# Altium schematic symbol library ARM Cortex.SchLib: 48 symbols (part 1 of 2)
Pins are listed as number, name and electrical type; pins without a type are passive.

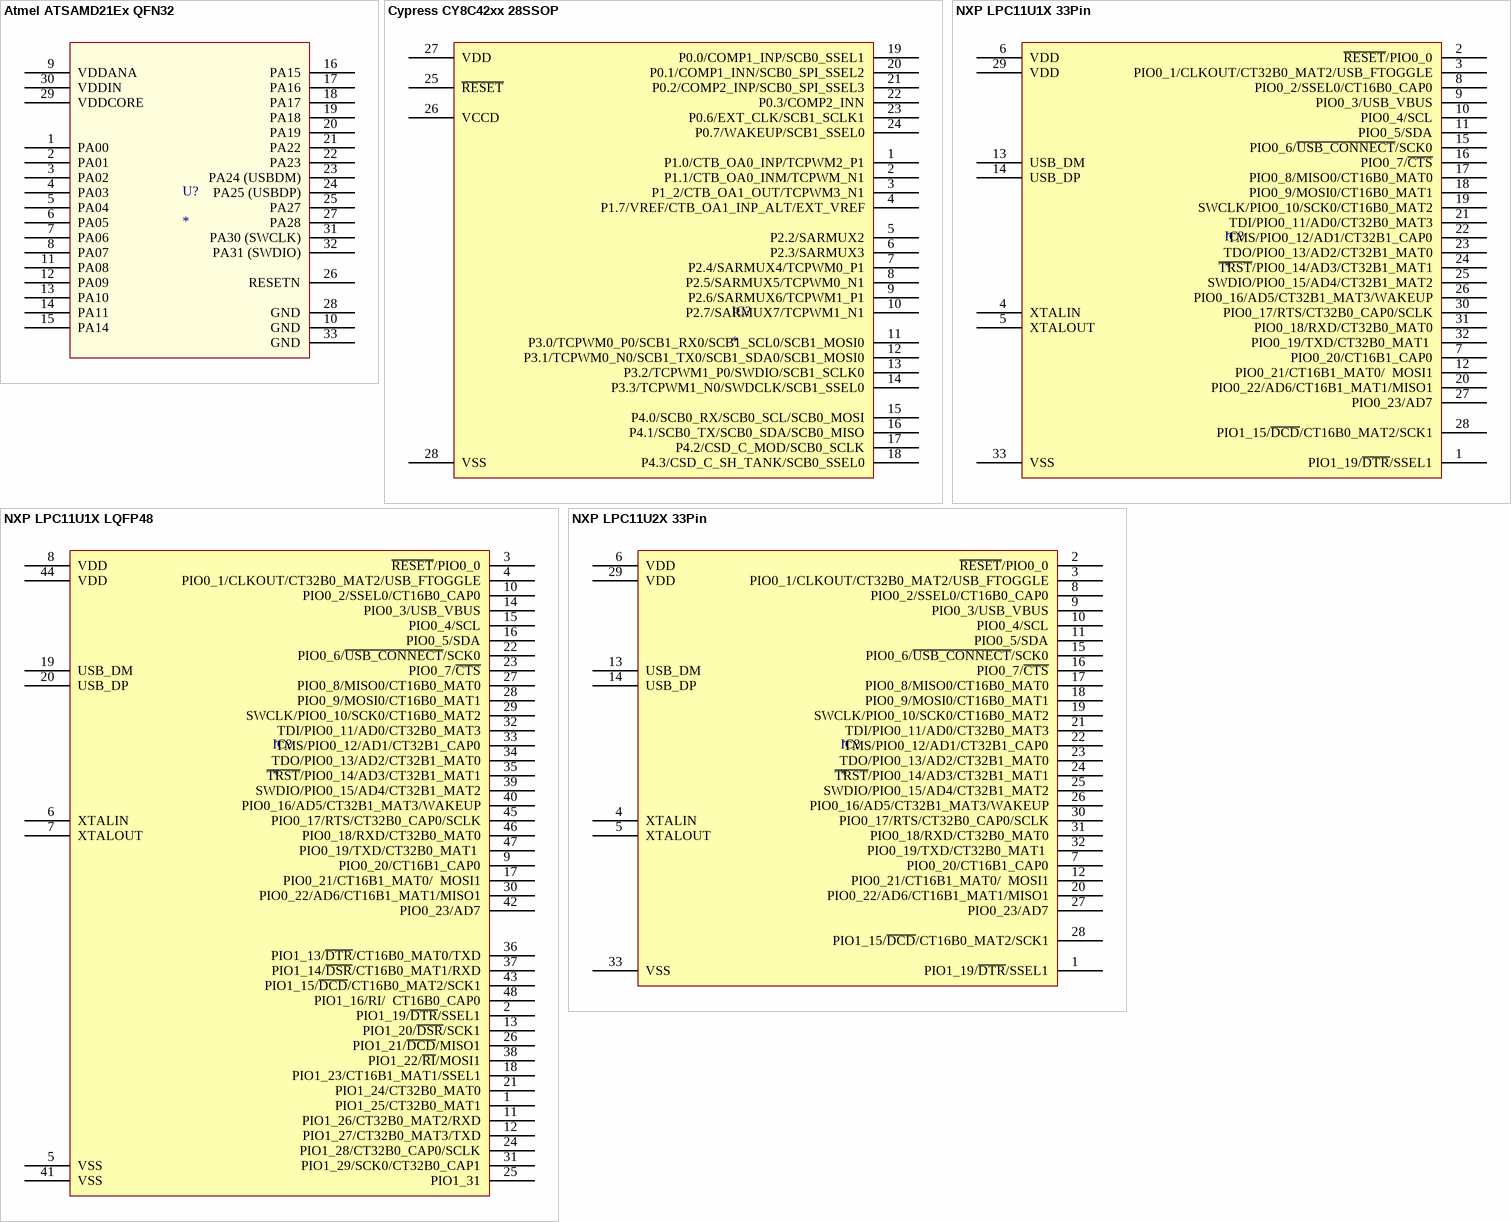
[diagram p0: symbols Atmel ATSAMD21Ex QFN32 to NXP LPC11U2X 33Pin]

## Atmel ATSAMD21Ex QFN32
designator U?
pins: 1 PA00, 2 PA01, 3 PA02, 4 PA03, 5 PA04, 6 PA05, 7 PA06, 8 PA07, 9 VDDANA, 10 GND, 11 PA08, 12 PA09, 13 PA10, 14 PA11, 15 PA14, 16 PA15, 17 PA16, 18 PA17, 19 PA18, 20 PA19, 21 PA22, 22 PA23, 23 PA24 (USBDM), 24 PA25 (USBDP), 25 PA27, 26 RESETN, 27 PA28, 28 GND, 29 VDDCORE, 30 VDDIN, 31 PA30 (SWCLK), 32 PA31 (SWDIO), 33 GND

## Cypress CY8C42xx 28SSOP
designator IC?
pins: 1 P1.0/CTB_OA0_INP/TCPWM2_P1, 2 P1.1/CTB_OA0_INM/TCPWM_N1, 3 P1_2/CTB_OA1_OUT/TCPWM3_N1, 4 P1.7/VREF/CTB_OA1_INP_ALT/EXT_VREF, 5 P2.2/SARMUX2, 6 P2.3/SARMUX3, 7 P2.4/SARMUX4/TCPWM0_P1, 8 P2.5/SARMUX5/TCPWM0_N1, 9 P2.6/SARMUX6/TCPWM1_P1, 10 P2.7/SARMUX7/TCPWM1_N1, 11 P3.0/TCPWM0_P0/SCB1_RX0/SCB1_SCL0/SCB1_MOSI0, 12 P3.1/TCPWM0_N0/SCB1_TX0/SCB1_SDA0/SCB1_MOSI0, 13 P3.2/TCPWM1_P0/SWDIO/SCB1_SCLK0, 14 P3.3/TCPWM1_N0/SWDCLK/SCB1_SSEL0, 15 P4.0/SCB0_RX/SCB0_SCL/SCB0_MOSI, 16 P4.1/SCB0_TX/SCB0_SDA/SCB0_MISO, 17 P4.2/CSD_C_MOD/SCB0_SCLK, 18 P4.3/CSD_C_SH_TANK/SCB0_SSEL0, 19 P0.0/COMP1_INP/SCB0_SSEL1, 20 P0.1/COMP1_INN/SCB0_SPI_SSEL2, 21 P0.2/COMP2_INP/SCB0_SPI_SSEL3, 22 P0.3/COMP2_INN, 23 P0.6/EXT_CLK/SCB1_SCLK1, 24 P0.7/WAKEUP/SCB1_SSEL0, 25 ~{RESET}, 26 VCCD, 27 VDD, 28 VSS

## NXP LPC11U1X 33Pin
designator IC?
pins: 1 PIO1_19/~{DTR}/SSEL1, 2 ~{RESET}/PIO0_0, 3 PIO0_1/CLKOUT/CT32B0_MAT2/USB_FTOGGLE, 4 XTALIN, 5 XTALOUT, 6 VDD, 7 PIO0_20/CT16B1_CAP0, 8 PIO0_2/SSEL0/CT16B0_CAP0, 9 PIO0_3/USB_VBUS, 10 PIO0_4/SCL, 11 PIO0_5/SDA, 12 PIO0_21/CT16B1_MAT0/  MOSI1, 13 USB_DM, 14 USB_DP, 15 PIO0_6/~{USB_CONNECT}/SCK0, 16 PIO0_7/~{CTS}, 17 PIO0_8/MISO0/CT16B0_MAT0, 18 PIO0_9/MOSI0/CT16B0_MAT1, 19 SWCLK/PIO0_10/SCK0/CT16B0_MAT2, 20 PIO0_22/AD6/CT16B1_MAT1/MISO1, 21 TDI/PIO0_11/AD0/CT32B0_MAT3, 22 TMS/PIO0_12/AD1/CT32B1_CAP0, 23 TDO/PIO0_13/AD2/CT32B1_MAT0, 24 ~{TRST}/PIO0_14/AD3/CT32B1_MAT1, 25 SWDIO/PIO0_15/AD4/CT32B1_MAT2, 26 PIO0_16/AD5/CT32B1_MAT3/WAKEUP, 27 PIO0_23/AD7, 28 PIO1_15/~{DCD}/CT16B0_MAT2/SCK1, 29 VDD, 30 PIO0_17/RTS/CT32B0_CAP0/SCLK, 31 PIO0_18/RXD/CT32B0_MAT0, 32 PIO0_19/TXD/CT32B0_MAT1 , 33 VSS

## NXP LPC11U1X LQFP48
designator IC?
pins: 1 PIO1_25/CT32B0_MAT1, 2 PIO1_19/~{DTR}/SSEL1, 3 ~{RESET}/PIO0_0, 4 PIO0_1/CLKOUT/CT32B0_MAT2/USB_FTOGGLE, 5 VSS, 6 XTALIN, 7 XTALOUT, 8 VDD, 9 PIO0_20/CT16B1_CAP0, 10 PIO0_2/SSEL0/CT16B0_CAP0, 11 PIO1_26/CT32B0_MAT2/RXD, 12 PIO1_27/CT32B0_MAT3/TXD, 13 PIO1_20/~{DSR}/SCK1, 14 PIO0_3/USB_VBUS, 15 PIO0_4/SCL, 16 PIO0_5/SDA, 17 PIO0_21/CT16B1_MAT0/  MOSI1, 18 PIO1_23/CT16B1_MAT1/SSEL1, 19 USB_DM, 20 USB_DP, 21 PIO1_24/CT32B0_MAT0, 22 PIO0_6/~{USB_CONNECT}/SCK0, 23 PIO0_7/~{CTS}, 24 PIO1_28/CT32B0_CAP0/SCLK, 25 PIO1_31, 26 PIO1_21/~{DCD}/MISO1, 27 PIO0_8/MISO0/CT16B0_MAT0, 28 PIO0_9/MOSI0/CT16B0_MAT1, 29 SWCLK/PIO0_10/SCK0/CT16B0_MAT2, 30 PIO0_22/AD6/CT16B1_MAT1/MISO1, 31 PIO1_29/SCK0/CT32B0_CAP1, 32 TDI/PIO0_11/AD0/CT32B0_MAT3, 33 TMS/PIO0_12/AD1/CT32B1_CAP0, 34 TDO/PIO0_13/AD2/CT32B1_MAT0, 35 ~{TRST}/PIO0_14/AD3/CT32B1_MAT1, 36 PIO1_13/~{DTR}/CT16B0_MAT0/TXD, 37 PIO1_14/~{DSR}/CT16B0_MAT1/RXD, 38 PIO1_22/~{RI}/MOSI1, 39 SWDIO/PIO0_15/AD4/CT32B1_MAT2, 40 PIO0_16/AD5/CT32B1_MAT3/WAKEUP, 41 VSS, 42 PIO0_23/AD7, 43 PIO1_15/~{DCD}/CT16B0_MAT2/SCK1, 44 VDD, 45 PIO0_17/RTS/CT32B0_CAP0/SCLK, 46 PIO0_18/RXD/CT32B0_MAT0, 47 PIO0_19/TXD/CT32B0_MAT1 , 48 PIO1_16/RI/  CT16B0_CAP0

## NXP LPC11U2X 33Pin
designator IC?
pins: 1 PIO1_19/~{DTR}/SSEL1, 2 ~{RESET}/PIO0_0, 3 PIO0_1/CLKOUT/CT32B0_MAT2/USB_FTOGGLE, 4 XTALIN, 5 XTALOUT, 6 VDD, 7 PIO0_20/CT16B1_CAP0, 8 PIO0_2/SSEL0/CT16B0_CAP0, 9 PIO0_3/USB_VBUS, 10 PIO0_4/SCL, 11 PIO0_5/SDA, 12 PIO0_21/CT16B1_MAT0/  MOSI1, 13 USB_DM, 14 USB_DP, 15 PIO0_6/~{USB_CONNECT}/SCK0, 16 PIO0_7/~{CTS}, 17 PIO0_8/MISO0/CT16B0_MAT0, 18 PIO0_9/MOSI0/CT16B0_MAT1, 19 SWCLK/PIO0_10/SCK0/CT16B0_MAT2, 20 PIO0_22/AD6/CT16B1_MAT1/MISO1, 21 TDI/PIO0_11/AD0/CT32B0_MAT3, 22 TMS/PIO0_12/AD1/CT32B1_CAP0, 23 TDO/PIO0_13/AD2/CT32B1_MAT0, 24 ~{TRST}/PIO0_14/AD3/CT32B1_MAT1, 25 SWDIO/PIO0_15/AD4/CT32B1_MAT2, 26 PIO0_16/AD5/CT32B1_MAT3/WAKEUP, 27 PIO0_23/AD7, 28 PIO1_15/~{DCD}/CT16B0_MAT2/SCK1, 29 VDD, 30 PIO0_17/RTS/CT32B0_CAP0/SCLK, 31 PIO0_18/RXD/CT32B0_MAT0, 32 PIO0_19/TXD/CT32B0_MAT1 , 33 VSS

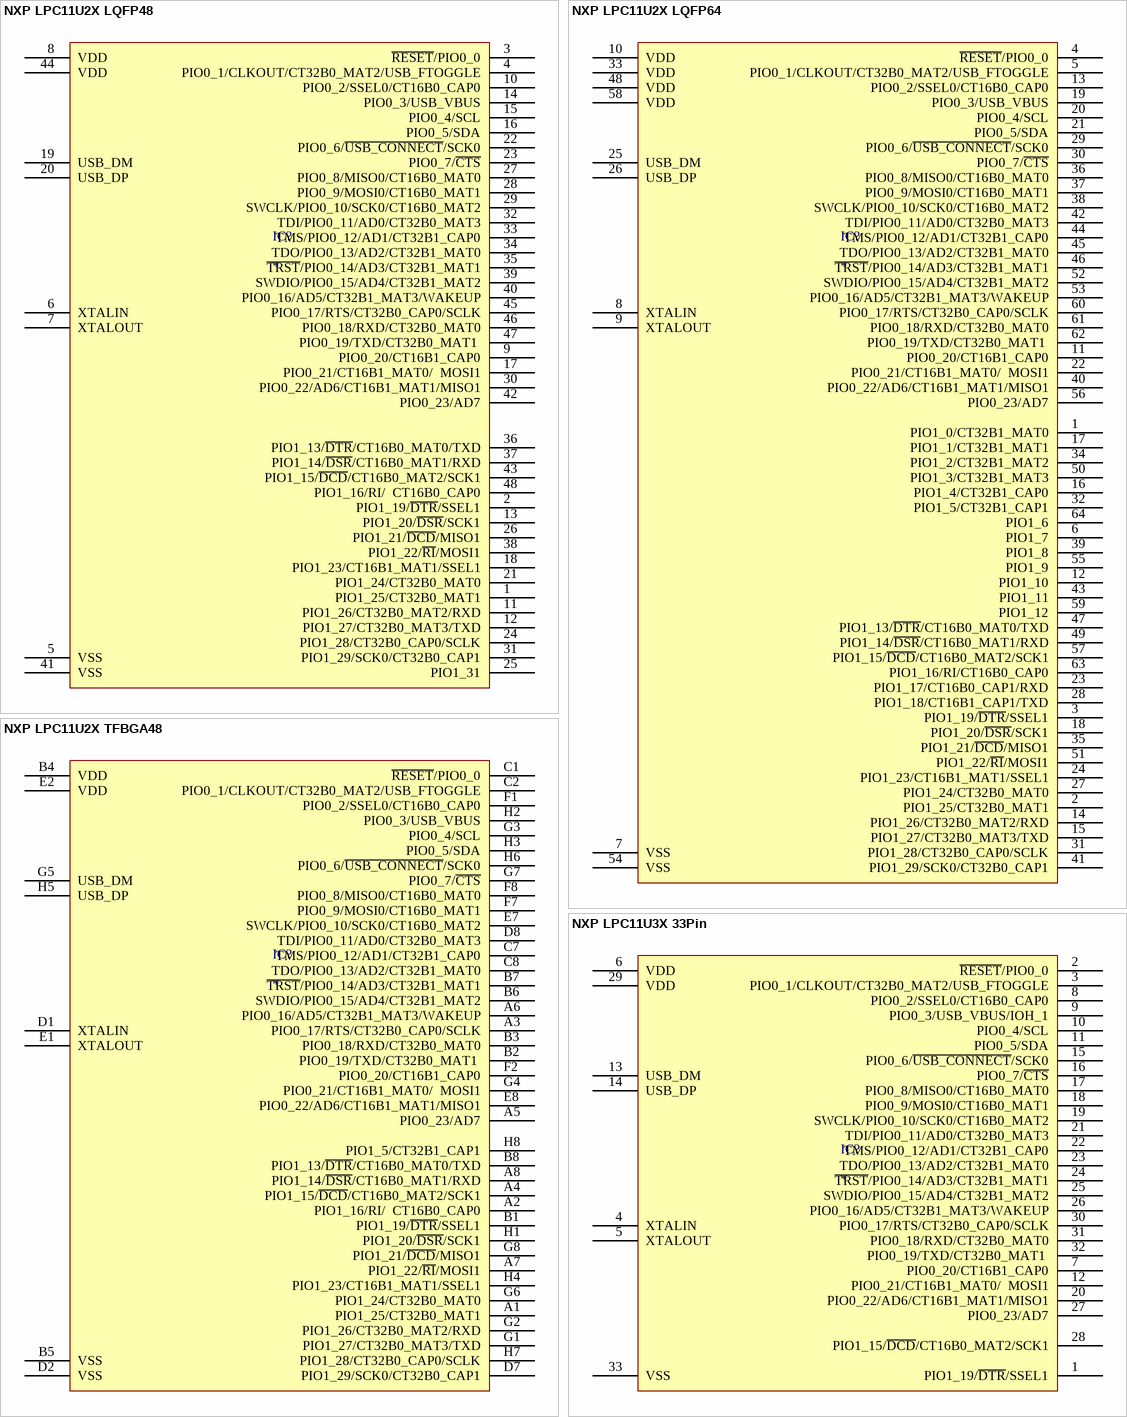
[diagram p1: symbols NXP LPC11U2X LQFP48 to NXP LPC11U3X 33Pin]

## NXP LPC11U2X LQFP48
designator IC?
pins: 1 PIO1_25/CT32B0_MAT1, 2 PIO1_19/~{DTR}/SSEL1, 3 ~{RESET}/PIO0_0, 4 PIO0_1/CLKOUT/CT32B0_MAT2/USB_FTOGGLE, 5 VSS, 6 XTALIN, 7 XTALOUT, 8 VDD, 9 PIO0_20/CT16B1_CAP0, 10 PIO0_2/SSEL0/CT16B0_CAP0, 11 PIO1_26/CT32B0_MAT2/RXD, 12 PIO1_27/CT32B0_MAT3/TXD, 13 PIO1_20/~{DSR}/SCK1, 14 PIO0_3/USB_VBUS, 15 PIO0_4/SCL, 16 PIO0_5/SDA, 17 PIO0_21/CT16B1_MAT0/  MOSI1, 18 PIO1_23/CT16B1_MAT1/SSEL1, 19 USB_DM, 20 USB_DP, 21 PIO1_24/CT32B0_MAT0, 22 PIO0_6/~{USB_CONNECT}/SCK0, 23 PIO0_7/~{CTS}, 24 PIO1_28/CT32B0_CAP0/SCLK, 25 PIO1_31, 26 PIO1_21/~{DCD}/MISO1, 27 PIO0_8/MISO0/CT16B0_MAT0, 28 PIO0_9/MOSI0/CT16B0_MAT1, 29 SWCLK/PIO0_10/SCK0/CT16B0_MAT2, 30 PIO0_22/AD6/CT16B1_MAT1/MISO1, 31 PIO1_29/SCK0/CT32B0_CAP1, 32 TDI/PIO0_11/AD0/CT32B0_MAT3, 33 TMS/PIO0_12/AD1/CT32B1_CAP0, 34 TDO/PIO0_13/AD2/CT32B1_MAT0, 35 ~{TRST}/PIO0_14/AD3/CT32B1_MAT1, 36 PIO1_13/~{DTR}/CT16B0_MAT0/TXD, 37 PIO1_14/~{DSR}/CT16B0_MAT1/RXD, 38 PIO1_22/~{RI}/MOSI1, 39 SWDIO/PIO0_15/AD4/CT32B1_MAT2, 40 PIO0_16/AD5/CT32B1_MAT3/WAKEUP, 41 VSS, 42 PIO0_23/AD7, 43 PIO1_15/~{DCD}/CT16B0_MAT2/SCK1, 44 VDD, 45 PIO0_17/RTS/CT32B0_CAP0/SCLK, 46 PIO0_18/RXD/CT32B0_MAT0, 47 PIO0_19/TXD/CT32B0_MAT1 , 48 PIO1_16/RI/  CT16B0_CAP0

## NXP LPC11U2X LQFP64
designator IC?
pins: 1 PIO1_0/CT32B1_MAT0, 2 PIO1_25/CT32B0_MAT1, 3 PIO1_19/~{DTR}/SSEL1, 4 ~{RESET}/PIO0_0, 5 PIO0_1/CLKOUT/CT32B0_MAT2/USB_FTOGGLE, 6 PIO1_7, 7 VSS, 8 XTALIN, 9 XTALOUT, 10 VDD, 11 PIO0_20/CT16B1_CAP0, 12 PIO1_10, 13 PIO0_2/SSEL0/CT16B0_CAP0, 14 PIO1_26/CT32B0_MAT2/RXD, 15 PIO1_27/CT32B0_MAT3/TXD, 16 PIO1_4/CT32B1_CAP0, 17 PIO1_1/CT32B1_MAT1, 18 PIO1_20/~{DSR}/SCK1, 19 PIO0_3/USB_VBUS, 20 PIO0_4/SCL, 21 PIO0_5/SDA, 22 PIO0_21/CT16B1_MAT0/  MOSI1, 23 PIO1_17/CT16B0_CAP1/RXD, 24 PIO1_23/CT16B1_MAT1/SSEL1, 25 USB_DM, 26 USB_DP, 27 PIO1_24/CT32B0_MAT0, 28 PIO1_18/CT16B1_CAP1/TXD, 29 PIO0_6/~{USB_CONNECT}/SCK0, 30 PIO0_7/~{CTS}, 31 PIO1_28/CT32B0_CAP0/SCLK, 32 PIO1_5/CT32B1_CAP1, 33 VDD, 34 PIO1_2/CT32B1_MAT2, 35 PIO1_21/~{DCD}/MISO1, 36 PIO0_8/MISO0/CT16B0_MAT0, 37 PIO0_9/MOSI0/CT16B0_MAT1, 38 SWCLK/PIO0_10/SCK0/CT16B0_MAT2, 39 PIO1_8, 40 PIO0_22/AD6/CT16B1_MAT1/MISO1, 41 PIO1_29/SCK0/CT32B0_CAP1, 42 TDI/PIO0_11/AD0/CT32B0_MAT3, 43 PIO1_11, 44 TMS/PIO0_12/AD1/CT32B1_CAP0, 45 TDO/PIO0_13/AD2/CT32B1_MAT0, 46 ~{TRST}/PIO0_14/AD3/CT32B1_MAT1, 47 PIO1_13/~{DTR}/CT16B0_MAT0/TXD, 48 VDD, 49 PIO1_14/~{DSR}/CT16B0_MAT1/RXD, 50 PIO1_3/CT32B1_MAT3, 51 PIO1_22/~{RI}/MOSI1, 52 SWDIO/PIO0_15/AD4/CT32B1_MAT2, 53 PIO0_16/AD5/CT32B1_MAT3/WAKEUP, 54 VSS, 55 PIO1_9, 56 PIO0_23/AD7, 57 PIO1_15/~{DCD}/CT16B0_MAT2/SCK1, 58 VDD, 59 PIO1_12, 60 PIO0_17/RTS/CT32B0_CAP0/SCLK, 61 PIO0_18/RXD/CT32B0_MAT0, 62 PIO0_19/TXD/CT32B0_MAT1 , 63 PIO1_16/RI/CT16B0_CAP0, 64 PIO1_6

## NXP LPC11U2X TFBGA48
designator IC?
pins: A1 PIO1_25/CT32B0_MAT1, A2 PIO1_16/RI/  CT16B0_CAP0, A3 PIO0_17/RTS/CT32B0_CAP0/SCLK, A4 PIO1_15/~{DCD}/CT16B0_MAT2/SCK1, A5 PIO0_23/AD7, A6 PIO0_16/AD5/CT32B1_MAT3/WAKEUP, A7 PIO1_22/~{RI}/MOSI1, A8 PIO1_14/~{DSR}/CT16B0_MAT1/RXD, B1 PIO1_19/~{DTR}/SSEL1, B2 PIO0_19/TXD/CT32B0_MAT1 , B3 PIO0_18/RXD/CT32B0_MAT0, B4 VDD, B5 VSS, B6 SWDIO/PIO0_15/AD4/CT32B1_MAT2, B7 ~{TRST}/PIO0_14/AD3/CT32B1_MAT1, B8 PIO1_13/~{DTR}/CT16B0_MAT0/TXD, C1 ~{RESET}/PIO0_0, C2 PIO0_1/CLKOUT/CT32B0_MAT2/USB_FTOGGLE, C7 TMS/PIO0_12/AD1/CT32B1_CAP0, C8 TDO/PIO0_13/AD2/CT32B1_MAT0, D1 XTALIN, D2 VSS, D7 PIO1_29/SCK0/CT32B0_CAP1, D8 TDI/PIO0_11/AD0/CT32B0_MAT3, E1 XTALOUT, E2 VDD, E7 SWCLK/PIO0_10/SCK0/CT16B0_MAT2, E8 PIO0_22/AD6/CT16B1_MAT1/MISO1, F1 PIO0_2/SSEL0/CT16B0_CAP0, F2 PIO0_20/CT16B1_CAP0, F7 PIO0_9/MOSI0/CT16B0_MAT1, F8 PIO0_8/MISO0/CT16B0_MAT0, G1 PIO1_27/CT32B0_MAT3/TXD, G2 PIO1_26/CT32B0_MAT2/RXD, G3 PIO0_4/SCL, G4 PIO0_21/CT16B1_MAT0/  MOSI1, G5 USB_DM, G6 PIO1_24/CT32B0_MAT0, G7 PIO0_7/~{CTS}, G8 PIO1_21/~{DCD}/MISO1, H1 PIO1_20/~{DSR}/SCK1, H2 PIO0_3/USB_VBUS, H3 PIO0_5/SDA, H4 PIO1_23/CT16B1_MAT1/SSEL1, H5 USB_DP, H6 PIO0_6/~{USB_CONNECT}/SCK0, H7 PIO1_28/CT32B0_CAP0/SCLK, H8 PIO1_5/CT32B1_CAP1

## NXP LPC11U3X 33Pin
designator IC?
pins: 1 PIO1_19/~{DTR}/SSEL1, 2 ~{RESET}/PIO0_0, 3 PIO0_1/CLKOUT/CT32B0_MAT2/USB_FTOGGLE, 4 XTALIN, 5 XTALOUT, 6 VDD, 7 PIO0_20/CT16B1_CAP0, 8 PIO0_2/SSEL0/CT16B0_CAP0, 9 PIO0_3/USB_VBUS/IOH_1, 10 PIO0_4/SCL, 11 PIO0_5/SDA, 12 PIO0_21/CT16B1_MAT0/  MOSI1, 13 USB_DM, 14 USB_DP, 15 PIO0_6/~{USB_CONNECT}/SCK0, 16 PIO0_7/~{CTS}, 17 PIO0_8/MISO0/CT16B0_MAT0, 18 PIO0_9/MOSI0/CT16B0_MAT1, 19 SWCLK/PIO0_10/SCK0/CT16B0_MAT2, 20 PIO0_22/AD6/CT16B1_MAT1/MISO1, 21 TDI/PIO0_11/AD0/CT32B0_MAT3, 22 TMS/PIO0_12/AD1/CT32B1_CAP0, 23 TDO/PIO0_13/AD2/CT32B1_MAT0, 24 ~{TRST}/PIO0_14/AD3/CT32B1_MAT1, 25 SWDIO/PIO0_15/AD4/CT32B1_MAT2, 26 PIO0_16/AD5/CT32B1_MAT3/WAKEUP, 27 PIO0_23/AD7, 28 PIO1_15/~{DCD}/CT16B0_MAT2/SCK1, 29 VDD, 30 PIO0_17/RTS/CT32B0_CAP0/SCLK, 31 PIO0_18/RXD/CT32B0_MAT0, 32 PIO0_19/TXD/CT32B0_MAT1 , 33 VSS

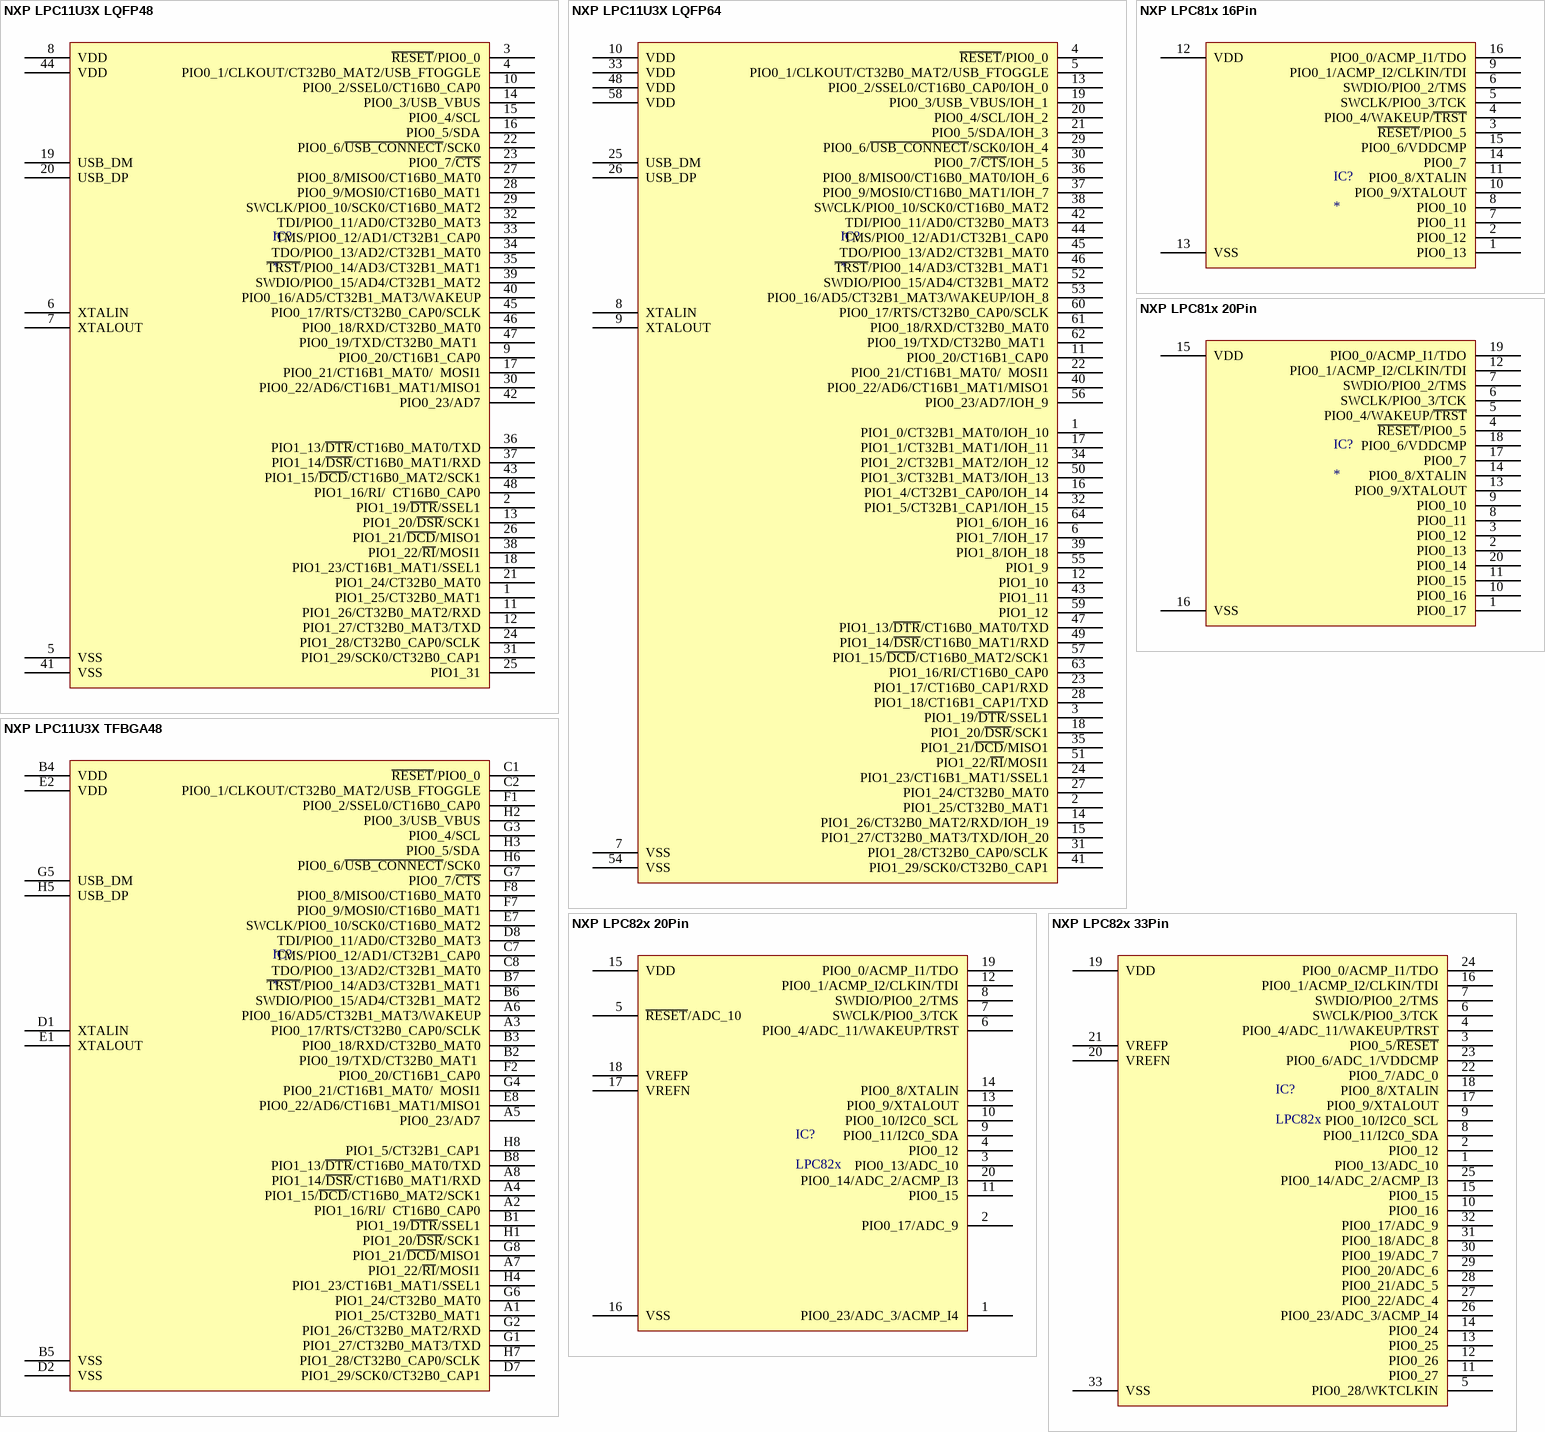
[diagram p2: symbols NXP LPC11U3X LQFP48 to NXP LPC82x 33Pin]

## NXP LPC11U3X LQFP48
designator IC?
pins: 1 PIO1_25/CT32B0_MAT1, 2 PIO1_19/~{DTR}/SSEL1, 3 ~{RESET}/PIO0_0, 4 PIO0_1/CLKOUT/CT32B0_MAT2/USB_FTOGGLE, 5 VSS, 6 XTALIN, 7 XTALOUT, 8 VDD, 9 PIO0_20/CT16B1_CAP0, 10 PIO0_2/SSEL0/CT16B0_CAP0, 11 PIO1_26/CT32B0_MAT2/RXD, 12 PIO1_27/CT32B0_MAT3/TXD, 13 PIO1_20/~{DSR}/SCK1, 14 PIO0_3/USB_VBUS, 15 PIO0_4/SCL, 16 PIO0_5/SDA, 17 PIO0_21/CT16B1_MAT0/  MOSI1, 18 PIO1_23/CT16B1_MAT1/SSEL1, 19 USB_DM, 20 USB_DP, 21 PIO1_24/CT32B0_MAT0, 22 PIO0_6/~{USB_CONNECT}/SCK0, 23 PIO0_7/~{CTS}, 24 PIO1_28/CT32B0_CAP0/SCLK, 25 PIO1_31, 26 PIO1_21/~{DCD}/MISO1, 27 PIO0_8/MISO0/CT16B0_MAT0, 28 PIO0_9/MOSI0/CT16B0_MAT1, 29 SWCLK/PIO0_10/SCK0/CT16B0_MAT2, 30 PIO0_22/AD6/CT16B1_MAT1/MISO1, 31 PIO1_29/SCK0/CT32B0_CAP1, 32 TDI/PIO0_11/AD0/CT32B0_MAT3, 33 TMS/PIO0_12/AD1/CT32B1_CAP0, 34 TDO/PIO0_13/AD2/CT32B1_MAT0, 35 ~{TRST}/PIO0_14/AD3/CT32B1_MAT1, 36 PIO1_13/~{DTR}/CT16B0_MAT0/TXD, 37 PIO1_14/~{DSR}/CT16B0_MAT1/RXD, 38 PIO1_22/~{RI}/MOSI1, 39 SWDIO/PIO0_15/AD4/CT32B1_MAT2, 40 PIO0_16/AD5/CT32B1_MAT3/WAKEUP, 41 VSS, 42 PIO0_23/AD7, 43 PIO1_15/~{DCD}/CT16B0_MAT2/SCK1, 44 VDD, 45 PIO0_17/RTS/CT32B0_CAP0/SCLK, 46 PIO0_18/RXD/CT32B0_MAT0, 47 PIO0_19/TXD/CT32B0_MAT1 , 48 PIO1_16/RI/  CT16B0_CAP0

## NXP LPC11U3X LQFP64
designator IC?
pins: 1 PIO1_0/CT32B1_MAT0/IOH_10, 2 PIO1_25/CT32B0_MAT1, 3 PIO1_19/~{DTR}/SSEL1, 4 ~{RESET}/PIO0_0, 5 PIO0_1/CLKOUT/CT32B0_MAT2/USB_FTOGGLE, 6 PIO1_7/IOH_17, 7 VSS, 8 XTALIN, 9 XTALOUT, 10 VDD, 11 PIO0_20/CT16B1_CAP0, 12 PIO1_10, 13 PIO0_2/SSEL0/CT16B0_CAP0/IOH_0, 14 PIO1_26/CT32B0_MAT2/RXD/IOH_19, 15 PIO1_27/CT32B0_MAT3/TXD/IOH_20, 16 PIO1_4/CT32B1_CAP0/IOH_14, 17 PIO1_1/CT32B1_MAT1/IOH_11, 18 PIO1_20/~{DSR}/SCK1, 19 PIO0_3/USB_VBUS/IOH_1, 20 PIO0_4/SCL/IOH_2, 21 PIO0_5/SDA/IOH_3, 22 PIO0_21/CT16B1_MAT0/  MOSI1, 23 PIO1_17/CT16B0_CAP1/RXD, 24 PIO1_23/CT16B1_MAT1/SSEL1, 25 USB_DM, 26 USB_DP, 27 PIO1_24/CT32B0_MAT0, 28 PIO1_18/CT16B1_CAP1/TXD, 29 PIO0_6/~{USB_CONNECT}/SCK0/IOH_4, 30 PIO0_7/~{CTS}/IOH_5, 31 PIO1_28/CT32B0_CAP0/SCLK, 32 PIO1_5/CT32B1_CAP1/IOH_15, 33 VDD, 34 PIO1_2/CT32B1_MAT2/IOH_12, 35 PIO1_21/~{DCD}/MISO1, 36 PIO0_8/MISO0/CT16B0_MAT0/IOH_6, 37 PIO0_9/MOSI0/CT16B0_MAT1/IOH_7, 38 SWCLK/PIO0_10/SCK0/CT16B0_MAT2, 39 PIO1_8/IOH_18, 40 PIO0_22/AD6/CT16B1_MAT1/MISO1, 41 PIO1_29/SCK0/CT32B0_CAP1, 42 TDI/PIO0_11/AD0/CT32B0_MAT3, 43 PIO1_11, 44 TMS/PIO0_12/AD1/CT32B1_CAP0, 45 TDO/PIO0_13/AD2/CT32B1_MAT0, 46 ~{TRST}/PIO0_14/AD3/CT32B1_MAT1, 47 PIO1_13/~{DTR}/CT16B0_MAT0/TXD, 48 VDD, 49 PIO1_14/~{DSR}/CT16B0_MAT1/RXD, 50 PIO1_3/CT32B1_MAT3/IOH_13, 51 PIO1_22/~{RI}/MOSI1, 52 SWDIO/PIO0_15/AD4/CT32B1_MAT2, 53 PIO0_16/AD5/CT32B1_MAT3/WAKEUP/IOH_8, 54 VSS, 55 PIO1_9, 56 PIO0_23/AD7/IOH_9, 57 PIO1_15/~{DCD}/CT16B0_MAT2/SCK1, 58 VDD, 59 PIO1_12, 60 PIO0_17/RTS/CT32B0_CAP0/SCLK, 61 PIO0_18/RXD/CT32B0_MAT0, 62 PIO0_19/TXD/CT32B0_MAT1 , 63 PIO1_16/RI/CT16B0_CAP0, 64 PIO1_6/IOH_16

## NXP LPC11U3X TFBGA48
designator IC?
pins: A1 PIO1_25/CT32B0_MAT1, A2 PIO1_16/RI/  CT16B0_CAP0, A3 PIO0_17/RTS/CT32B0_CAP0/SCLK, A4 PIO1_15/~{DCD}/CT16B0_MAT2/SCK1, A5 PIO0_23/AD7, A6 PIO0_16/AD5/CT32B1_MAT3/WAKEUP, A7 PIO1_22/~{RI}/MOSI1, A8 PIO1_14/~{DSR}/CT16B0_MAT1/RXD, B1 PIO1_19/~{DTR}/SSEL1, B2 PIO0_19/TXD/CT32B0_MAT1 , B3 PIO0_18/RXD/CT32B0_MAT0, B4 VDD, B5 VSS, B6 SWDIO/PIO0_15/AD4/CT32B1_MAT2, B7 ~{TRST}/PIO0_14/AD3/CT32B1_MAT1, B8 PIO1_13/~{DTR}/CT16B0_MAT0/TXD, C1 ~{RESET}/PIO0_0, C2 PIO0_1/CLKOUT/CT32B0_MAT2/USB_FTOGGLE, C7 TMS/PIO0_12/AD1/CT32B1_CAP0, C8 TDO/PIO0_13/AD2/CT32B1_MAT0, D1 XTALIN, D2 VSS, D7 PIO1_29/SCK0/CT32B0_CAP1, D8 TDI/PIO0_11/AD0/CT32B0_MAT3, E1 XTALOUT, E2 VDD, E7 SWCLK/PIO0_10/SCK0/CT16B0_MAT2, E8 PIO0_22/AD6/CT16B1_MAT1/MISO1, F1 PIO0_2/SSEL0/CT16B0_CAP0, F2 PIO0_20/CT16B1_CAP0, F7 PIO0_9/MOSI0/CT16B0_MAT1, F8 PIO0_8/MISO0/CT16B0_MAT0, G1 PIO1_27/CT32B0_MAT3/TXD, G2 PIO1_26/CT32B0_MAT2/RXD, G3 PIO0_4/SCL, G4 PIO0_21/CT16B1_MAT0/  MOSI1, G5 USB_DM, G6 PIO1_24/CT32B0_MAT0, G7 PIO0_7/~{CTS}, G8 PIO1_21/~{DCD}/MISO1, H1 PIO1_20/~{DSR}/SCK1, H2 PIO0_3/USB_VBUS, H3 PIO0_5/SDA, H4 PIO1_23/CT16B1_MAT1/SSEL1, H5 USB_DP, H6 PIO0_6/~{USB_CONNECT}/SCK0, H7 PIO1_28/CT32B0_CAP0/SCLK, H8 PIO1_5/CT32B1_CAP1

## NXP LPC81x 16Pin
designator IC?
pins: 1 PIO0_13, 2 PIO0_12, 3 ~{RESET}/PIO0_5, 4 PIO0_4/WAKEUP/~{TRST}, 5 SWCLK/PIO0_3/TCK, 6 SWDIO/PIO0_2/TMS, 7 PIO0_11, 8 PIO0_10, 9 PIO0_1/ACMP_I2/CLKIN/TDI, 10 PIO0_9/XTALOUT, 11 PIO0_8/XTALIN, 12 VDD, 13 VSS, 14 PIO0_7, 15 PIO0_6/VDDCMP, 16 PIO0_0/ACMP_I1/TDO

## NXP LPC81x 20Pin
designator IC?
pins: 1 PIO0_17, 2 PIO0_13, 3 PIO0_12, 4 ~{RESET}/PIO0_5, 5 PIO0_4/WAKEUP/~{TRST}, 6 SWCLK/PIO0_3/TCK, 7 SWDIO/PIO0_2/TMS, 8 PIO0_11, 9 PIO0_10, 10 PIO0_16, 11 PIO0_15, 12 PIO0_1/ACMP_I2/CLKIN/TDI, 13 PIO0_9/XTALOUT, 14 PIO0_8/XTALIN, 15 VDD, 16 VSS, 17 PIO0_7, 18 PIO0_6/VDDCMP, 19 PIO0_0/ACMP_I1/TDO, 20 PIO0_14

## NXP LPC82x 20Pin
designator IC?, comment LPC82x
32-bit ARM Cortex-M0+ microcontroller
pins: 1 PIO0_23/ADC_3/ACMP_I4, 2 PIO0_17/ADC_9, 3 PIO0_13/ADC_10, 4 PIO0_12, 5 ~{RESET}/ADC_10, 6 PIO0_4/ADC_11/WAKEUP/TRST, 7 SWCLK/PIO0_3/TCK, 8 SWDIO/PIO0_2/TMS, 9 PIO0_11/I2C0_SDA, 10 PIO0_10/I2C0_SCL, 11 PIO0_15, 12 PIO0_1/ACMP_I2/CLKIN/TDI, 13 PIO0_9/XTALOUT, 14 PIO0_8/XTALIN, 15 VDD, 16 VSS, 17 VREFN, 18 VREFP, 19 PIO0_0/ACMP_I1/TDO, 20 PIO0_14/ADC_2/ACMP_I3

## NXP LPC82x 33Pin
designator IC?, comment LPC82x
32-bit ARM Cortex-M0+ microcontroller
pins: 1 PIO0_13/ADC_10, 2 PIO0_12, 3 PIO0_5/~{RESET}, 4 PIO0_4/ADC_11/WAKEUP/TRST, 5 PIO0_28/WKTCLKIN, 6 SWCLK/PIO0_3/TCK, 7 SWDIO/PIO0_2/TMS, 8 PIO0_11/I2C0_SDA, 9 PIO0_10/I2C0_SCL, 10 PIO0_16, 11 PIO0_27, 12 PIO0_26, 13 PIO0_25, 14 PIO0_24, 15 PIO0_15, 16 PIO0_1/ACMP_I2/CLKIN/TDI, 17 PIO0_9/XTALOUT, 18 PIO0_8/XTALIN, 19 VDD, 20 VREFN, 21 VREFP, 22 PIO0_7/ADC_0, 23 PIO0_6/ADC_1/VDDCMP, 24 PIO0_0/ACMP_I1/TDO, 25 PIO0_14/ADC_2/ACMP_I3, 26 PIO0_23/ADC_3/ACMP_I4, 27 PIO0_22/ADC_4, 28 PIO0_21/ADC_5, 29 PIO0_20/ADC_6, 30 PIO0_19/ADC_7, 31 PIO0_18/ADC_8, 32 PIO0_17/ADC_9, 33 VSS

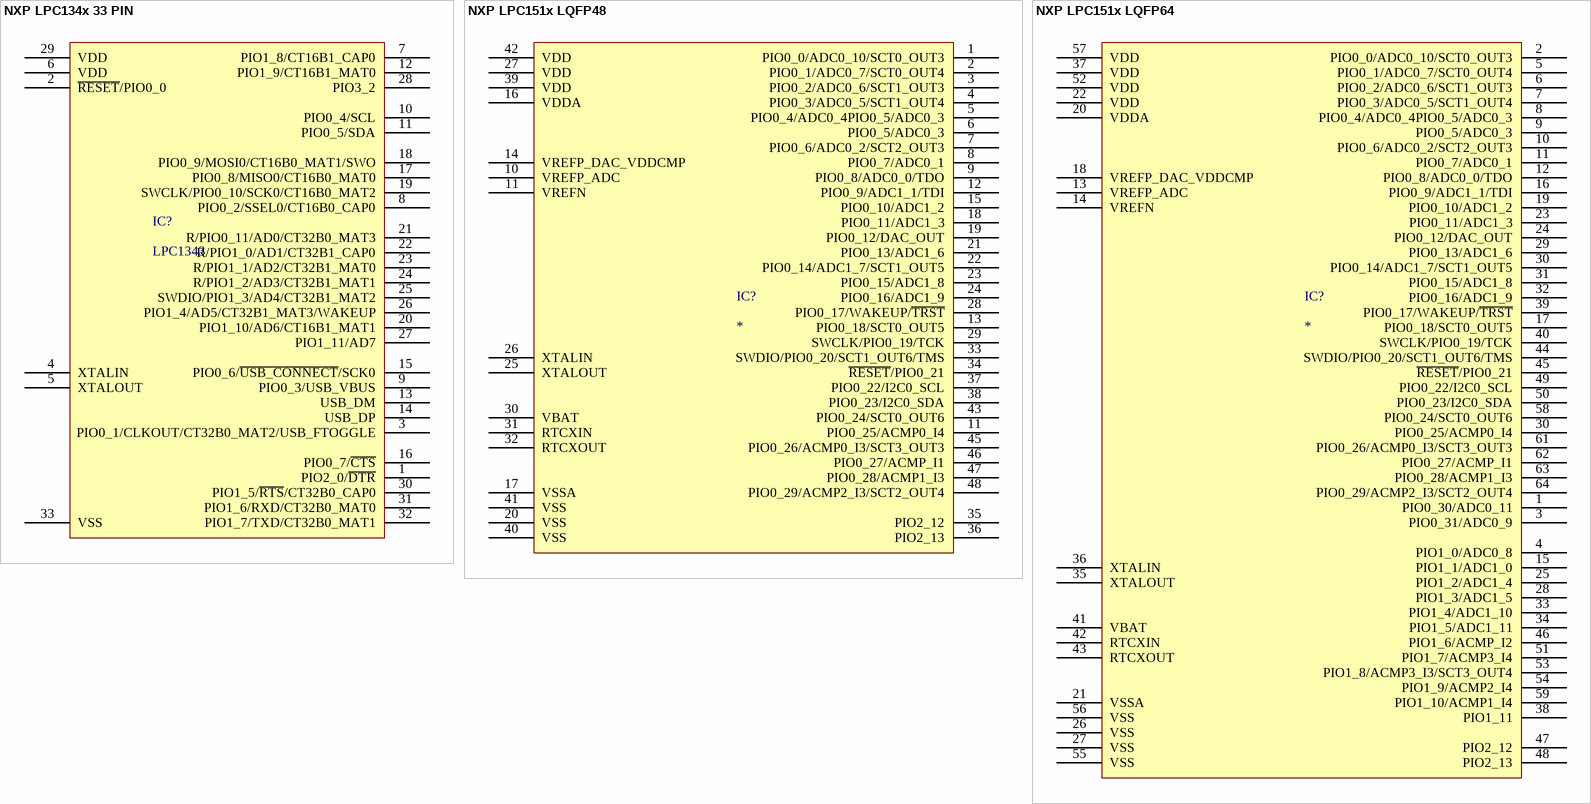
[diagram p3: symbols NXP LPC134x 33 PIN to NXP LPC151x LQFP64]

## NXP LPC134x 33 PIN
designator IC?, comment LPC1343
32-bit ARM Cortex-M3 microcontroller; up to 32kB flash and 8kB SRAM; USB device
pins: 1 PIO2_0/~{DTR}, 2 ~{RESET}/PIO0_0, 3 PIO0_1/CLKOUT/CT32B0_MAT2/USB_FTOGGLE, 4 XTALIN, 5 XTALOUT, 6 VDD, 7 PIO1_8/CT16B1_CAP0, 8 PIO0_2/SSEL0/CT16B0_CAP0, 9 PIO0_3/USB_VBUS, 10 PIO0_4/SCL, 11 PIO0_5/SDA, 12 PIO1_9/CT16B1_MAT0, 13 USB_DM, 14 USB_DP, 15 PIO0_6/~{USB_CONNECT}/SCK0, 16 PIO0_7/~{CTS}, 17 PIO0_8/MISO0/CT16B0_MAT0, 18 PIO0_9/MOSI0/CT16B0_MAT1/SWO, 19 SWCLK/PIO0_10/SCK0/CT16B0_MAT2, 20 PIO1_10/AD6/CT16B1_MAT1, 21 R/PIO0_11/AD0/CT32B0_MAT3, 22 R/PIO1_0/AD1/CT32B1_CAP0, 23 R/PIO1_1/AD2/CT32B1_MAT0, 24 R/PIO1_2/AD3/CT32B1_MAT1, 25 SWDIO/PIO1_3/AD4/CT32B1_MAT2, 26 PIO1_4/AD5/CT32B1_MAT3/WAKEUP, 27 PIO1_11/AD7, 28 PIO3_2, 29 VDD, 30 PIO1_5/~{RTS}/CT32B0_CAP0, 31 PIO1_6/RXD/CT32B0_MAT0, 32 PIO1_7/TXD/CT32B0_MAT1, 33 VSS

## NXP LPC151x LQFP48
designator IC?
pins: 1 PIO0_0/ADC0_10/SCT0_OUT3, 2 PIO0_1/ADC0_7/SCT0_OUT4, 3 PIO0_2/ADC0_6/SCT1_OUT3, 4 PIO0_3/ADC0_5/SCT1_OUT4, 5 PIO0_4/ADC0_4PIO0_5/ADC0_3, 6 PIO0_5/ADC0_3, 7 PIO0_6/ADC0_2/SCT2_OUT3, 8 PIO0_7/ADC0_1, 9 PIO0_8/ADC0_0/TDO, 10 VREFP_ADC, 11 PIO0_25/ACMP0_I4, 11 VREFN, 12 PIO0_9/ADC1_1/TDI, 13 PIO0_18/SCT0_OUT5, 14 VREFP_DAC_VDDCMP, 15 PIO0_10/ADC1_2, 16 VDDA, 17 VSSA, 18 PIO0_11/ADC1_3, 19 PIO0_12/DAC_OUT, 20 VSS, 21 PIO0_13/ADC1_6, 22 PIO0_14/ADC1_7/SCT1_OUT5, 23 PIO0_15/ADC1_8, 24 PIO0_16/ADC1_9, 25 XTALOUT, 26 XTALIN, 27 VDD, 28 PIO0_17/WAKEUP/~{TRST}, 29 SWCLK/PIO0_19/TCK, 30 VBAT, 31 RTCXIN, 32 RTCXOUT, 33 SWDIO/PIO0_20/SCT1_OUT6/TMS, 34 ~{RESET}/PIO0_21, 35 PIO2_12, 36 PIO2_13, 37 PIO0_22/I2C0_SCL, 38 PIO0_23/I2C0_SDA, 39 VDD, 40 VSS, 41 VSS, 42 VDD, 43 PIO0_24/SCT0_OUT6, 45 PIO0_26/ACMP0_I3/SCT3_OUT3, 46 PIO0_27/ACMP_I1, 47 PIO0_28/ACMP1_I3, 48 PIO0_29/ACMP2_I3/SCT2_OUT4

## NXP LPC151x LQFP64
designator IC?
pins: 1 PIO0_30/ADC0_11, 2 PIO0_0/ADC0_10/SCT0_OUT3, 3 PIO0_31/ADC0_9, 4 PIO1_0/ADC0_8, 5 PIO0_1/ADC0_7/SCT0_OUT4, 6 PIO0_2/ADC0_6/SCT1_OUT3, 7 PIO0_3/ADC0_5/SCT1_OUT4, 8 PIO0_4/ADC0_4PIO0_5/ADC0_3, 9 PIO0_5/ADC0_3, 10 PIO0_6/ADC0_2/SCT2_OUT3, 11 PIO0_7/ADC0_1, 12 PIO0_8/ADC0_0/TDO, 13 VREFP_ADC, 14 VREFN, 15 PIO1_1/ADC1_0, 16 PIO0_9/ADC1_1/TDI, 17 PIO0_18/SCT0_OUT5, 18 VREFP_DAC_VDDCMP, 19 PIO0_10/ADC1_2, 20 VDDA, 21 VSSA, 22 VDD, 23 PIO0_11/ADC1_3, 24 PIO0_12/DAC_OUT, 25 PIO1_2/ADC1_4, 26 VSS, 27 VSS, 28 PIO1_3/ADC1_5, 29 PIO0_13/ADC1_6, 30 PIO0_14/ADC1_7/SCT1_OUT5, 30 PIO0_25/ACMP0_I4, 31 PIO0_15/ADC1_8, 32 PIO0_16/ADC1_9, 33 PIO1_4/ADC1_10, 34 PIO1_5/ADC1_11, 35 XTALOUT, 36 XTALIN, 37 VDD, 38 PIO1_11, 39 PIO0_17/WAKEUP/~{TRST}, 40 SWCLK/PIO0_19/TCK, 41 VBAT, 42 RTCXIN, 43 RTCXOUT, 44 SWDIO/PIO0_20/SCT1_OUT6/TMS, 45 ~{RESET}/PIO0_21, 46 PIO1_6/ACMP_I2, 47 PIO2_12, 48 PIO2_13, 49 PIO0_22/I2C0_SCL, 50 PIO0_23/I2C0_SDA, 51 PIO1_7/ACMP3_I4, 52 VDD, 53 PIO1_8/ACMP3_I3/SCT3_OUT4, 54 PIO1_9/ACMP2_I4, 55 VSS, 56 VSS, 57 VDD, 58 PIO0_24/SCT0_OUT6, 59 PIO1_10/ACMP1_I4, 61 PIO0_26/ACMP0_I3/SCT3_OUT3, 62 PIO0_27/ACMP_I1, 63 PIO0_28/ACMP1_I3, 64 PIO0_29/ACMP2_I3/SCT2_OUT4

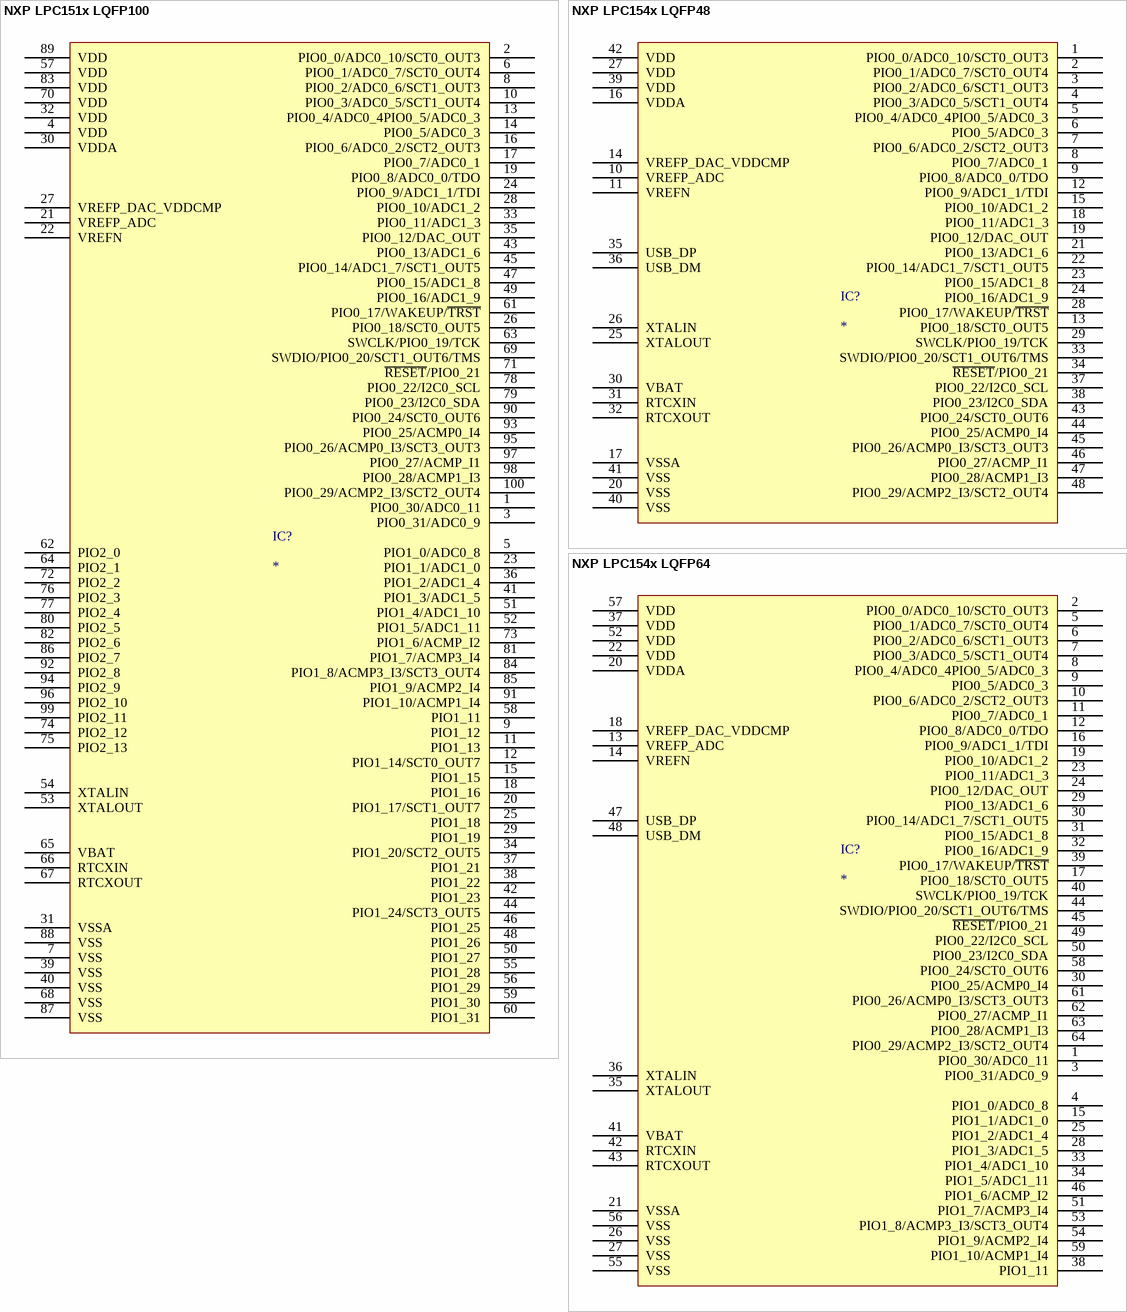
[diagram p4: symbols NXP LPC151x LQFP100 to NXP LPC154x LQFP64]

## NXP LPC151x LQFP100
designator IC?
pins: 1 PIO0_30/ADC0_11, 2 PIO0_0/ADC0_10/SCT0_OUT3, 3 PIO0_31/ADC0_9, 4 VDD, 5 PIO1_0/ADC0_8, 6 PIO0_1/ADC0_7/SCT0_OUT4, 7 VSS, 8 PIO0_2/ADC0_6/SCT1_OUT3, 9 PIO1_12, 10 PIO0_3/ADC0_5/SCT1_OUT4, 11 PIO1_13, 12 PIO1_14/SCT0_OUT7, 13 PIO0_4/ADC0_4PIO0_5/ADC0_3, 14 PIO0_5/ADC0_3, 15 PIO1_15, 16 PIO0_6/ADC0_2/SCT2_OUT3, 17 PIO0_7/ADC0_1, 18 PIO1_16, 19 PIO0_8/ADC0_0/TDO, 20 PIO1_17/SCT1_OUT7, 21 VREFP_ADC, 22 VREFN, 23 PIO1_1/ADC1_0, 24 PIO0_9/ADC1_1/TDI, 25 PIO1_18, 26 PIO0_18/SCT0_OUT5, 27 VREFP_DAC_VDDCMP, 28 PIO0_10/ADC1_2, 29 PIO1_19, 30 VDDA, 31 VSSA, 32 VDD, 33 PIO0_11/ADC1_3, 34 PIO1_20/SCT2_OUT5, 35 PIO0_12/DAC_OUT, 36 PIO1_2/ADC1_4, 37 PIO1_21, 38 PIO1_22, 39 VSS, 40 VSS, 41 PIO1_3/ADC1_5, 42 PIO1_23, 43 PIO0_13/ADC1_6, 44 PIO1_24/SCT3_OUT5, 45 PIO0_14/ADC1_7/SCT1_OUT5, 46 PIO1_25, 47 PIO0_15/ADC1_8, 48 PIO1_26, 49 PIO0_16/ADC1_9, 50 PIO1_27, 51 PIO1_4/ADC1_10, 52 PIO1_5/ADC1_11, 53 XTALOUT, 54 XTALIN, 55 PIO1_28, 56 PIO1_29, 57 VDD, 58 PIO1_11, 59 PIO1_30, 60 PIO1_31, 61 PIO0_17/WAKEUP/~{TRST}, 62 PIO2_0, 63 SWCLK/PIO0_19/TCK, 64 PIO2_1, 65 VBAT, 66 RTCXIN, 67 RTCXOUT, 68 VSS, 69 SWDIO/PIO0_20/SCT1_OUT6/TMS, 70 VDD, 71 ~{RESET}/PIO0_21, 72 PIO2_2, 73 PIO1_6/ACMP_I2, 74 PIO2_12, 75 PIO2_13, 76 PIO2_3, 77 PIO2_4, 78 PIO0_22/I2C0_SCL, 79 PIO0_23/I2C0_SDA, 80 PIO2_5, 81 PIO1_7/ACMP3_I4, 82 PIO2_6, 83 VDD, 84 PIO1_8/ACMP3_I3/SCT3_OUT4, 85 PIO1_9/ACMP2_I4, 86 PIO2_7, 87 VSS, 88 VSS, 89 VDD, 90 PIO0_24/SCT0_OUT6, 91 PIO1_10/ACMP1_I4, 92 PIO2_8, 93 PIO0_25/ACMP0_I4, 94 PIO2_9, 95 PIO0_26/ACMP0_I3/SCT3_OUT3, 96 PIO2_10, 97 PIO0_27/ACMP_I1, 98 PIO0_28/ACMP1_I3, 99 PIO2_11, 100 PIO0_29/ACMP2_I3/SCT2_OUT4

## NXP LPC154x LQFP48
designator IC?
pins: 1 PIO0_0/ADC0_10/SCT0_OUT3, 2 PIO0_1/ADC0_7/SCT0_OUT4, 3 PIO0_2/ADC0_6/SCT1_OUT3, 4 PIO0_3/ADC0_5/SCT1_OUT4, 5 PIO0_4/ADC0_4PIO0_5/ADC0_3, 6 PIO0_5/ADC0_3, 7 PIO0_6/ADC0_2/SCT2_OUT3, 8 PIO0_7/ADC0_1, 9 PIO0_8/ADC0_0/TDO, 10 VREFP_ADC, 11 VREFN, 12 PIO0_9/ADC1_1/TDI, 13 PIO0_18/SCT0_OUT5, 14 VREFP_DAC_VDDCMP, 15 PIO0_10/ADC1_2, 16 VDDA, 17 VSSA, 18 PIO0_11/ADC1_3, 19 PIO0_12/DAC_OUT, 20 VSS, 21 PIO0_13/ADC1_6, 22 PIO0_14/ADC1_7/SCT1_OUT5, 23 PIO0_15/ADC1_8, 24 PIO0_16/ADC1_9, 25 XTALOUT, 26 XTALIN, 27 VDD, 28 PIO0_17/WAKEUP/~{TRST}, 29 SWCLK/PIO0_19/TCK, 30 VBAT, 31 RTCXIN, 32 RTCXOUT, 33 SWDIO/PIO0_20/SCT1_OUT6/TMS, 34 ~{RESET}/PIO0_21, 35 USB_DP, 36 USB_DM, 37 PIO0_22/I2C0_SCL, 38 PIO0_23/I2C0_SDA, 39 VDD, 40 VSS, 41 VSS, 42 VDD, 43 PIO0_24/SCT0_OUT6, 44 PIO0_25/ACMP0_I4, 45 PIO0_26/ACMP0_I3/SCT3_OUT3, 46 PIO0_27/ACMP_I1, 47 PIO0_28/ACMP1_I3, 48 PIO0_29/ACMP2_I3/SCT2_OUT4

## NXP LPC154x LQFP64
designator IC?
pins: 1 PIO0_30/ADC0_11, 2 PIO0_0/ADC0_10/SCT0_OUT3, 3 PIO0_31/ADC0_9, 4 PIO1_0/ADC0_8, 5 PIO0_1/ADC0_7/SCT0_OUT4, 6 PIO0_2/ADC0_6/SCT1_OUT3, 7 PIO0_3/ADC0_5/SCT1_OUT4, 8 PIO0_4/ADC0_4PIO0_5/ADC0_3, 9 PIO0_5/ADC0_3, 10 PIO0_6/ADC0_2/SCT2_OUT3, 11 PIO0_7/ADC0_1, 12 PIO0_8/ADC0_0/TDO, 13 VREFP_ADC, 14 VREFN, 15 PIO1_1/ADC1_0, 16 PIO0_9/ADC1_1/TDI, 17 PIO0_18/SCT0_OUT5, 18 VREFP_DAC_VDDCMP, 19 PIO0_10/ADC1_2, 20 VDDA, 21 VSSA, 22 VDD, 23 PIO0_11/ADC1_3, 24 PIO0_12/DAC_OUT, 25 PIO1_2/ADC1_4, 26 VSS, 27 VSS, 28 PIO1_3/ADC1_5, 29 PIO0_13/ADC1_6, 30 PIO0_14/ADC1_7/SCT1_OUT5, 30 PIO0_25/ACMP0_I4, 31 PIO0_15/ADC1_8, 32 PIO0_16/ADC1_9, 33 PIO1_4/ADC1_10, 34 PIO1_5/ADC1_11, 35 XTALOUT, 36 XTALIN, 37 VDD, 38 PIO1_11, 39 PIO0_17/WAKEUP/~{TRST}, 40 SWCLK/PIO0_19/TCK, 41 VBAT, 42 RTCXIN, 43 RTCXOUT, 44 SWDIO/PIO0_20/SCT1_OUT6/TMS, 45 ~{RESET}/PIO0_21, 46 PIO1_6/ACMP_I2, 47 USB_DP, 48 USB_DM, 49 PIO0_22/I2C0_SCL, 50 PIO0_23/I2C0_SDA, 51 PIO1_7/ACMP3_I4, 52 VDD, 53 PIO1_8/ACMP3_I3/SCT3_OUT4, 54 PIO1_9/ACMP2_I4, 55 VSS, 56 VSS, 57 VDD, 58 PIO0_24/SCT0_OUT6, 59 PIO1_10/ACMP1_I4, 61 PIO0_26/ACMP0_I3/SCT3_OUT3, 62 PIO0_27/ACMP_I1, 63 PIO0_28/ACMP1_I3, 64 PIO0_29/ACMP2_I3/SCT2_OUT4

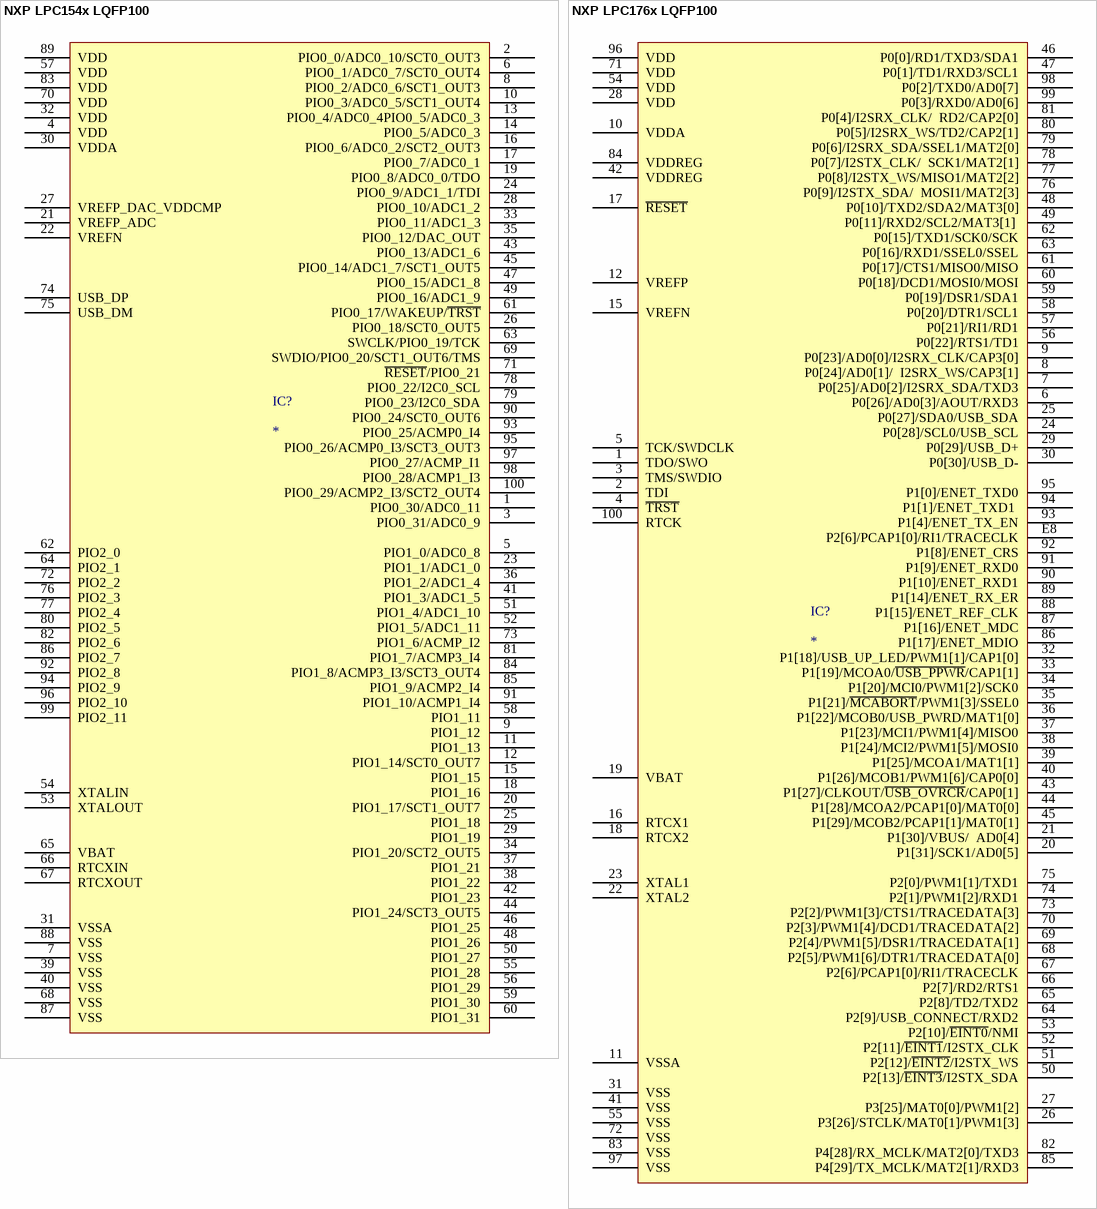
[diagram p5: symbols NXP LPC154x LQFP100 to NXP LPC176x LQFP100]

## NXP LPC154x LQFP100
designator IC?
pins: 1 PIO0_30/ADC0_11, 2 PIO0_0/ADC0_10/SCT0_OUT3, 3 PIO0_31/ADC0_9, 4 VDD, 5 PIO1_0/ADC0_8, 6 PIO0_1/ADC0_7/SCT0_OUT4, 7 VSS, 8 PIO0_2/ADC0_6/SCT1_OUT3, 9 PIO1_12, 10 PIO0_3/ADC0_5/SCT1_OUT4, 11 PIO1_13, 12 PIO1_14/SCT0_OUT7, 13 PIO0_4/ADC0_4PIO0_5/ADC0_3, 14 PIO0_5/ADC0_3, 15 PIO1_15, 16 PIO0_6/ADC0_2/SCT2_OUT3, 17 PIO0_7/ADC0_1, 18 PIO1_16, 19 PIO0_8/ADC0_0/TDO, 20 PIO1_17/SCT1_OUT7, 21 VREFP_ADC, 22 VREFN, 23 PIO1_1/ADC1_0, 24 PIO0_9/ADC1_1/TDI, 25 PIO1_18, 26 PIO0_18/SCT0_OUT5, 27 VREFP_DAC_VDDCMP, 28 PIO0_10/ADC1_2, 29 PIO1_19, 30 VDDA, 31 VSSA, 32 VDD, 33 PIO0_11/ADC1_3, 34 PIO1_20/SCT2_OUT5, 35 PIO0_12/DAC_OUT, 36 PIO1_2/ADC1_4, 37 PIO1_21, 38 PIO1_22, 39 VSS, 40 VSS, 41 PIO1_3/ADC1_5, 42 PIO1_23, 43 PIO0_13/ADC1_6, 44 PIO1_24/SCT3_OUT5, 45 PIO0_14/ADC1_7/SCT1_OUT5, 46 PIO1_25, 47 PIO0_15/ADC1_8, 48 PIO1_26, 49 PIO0_16/ADC1_9, 50 PIO1_27, 51 PIO1_4/ADC1_10, 52 PIO1_5/ADC1_11, 53 XTALOUT, 54 XTALIN, 55 PIO1_28, 56 PIO1_29, 57 VDD, 58 PIO1_11, 59 PIO1_30, 60 PIO1_31, 61 PIO0_17/WAKEUP/~{TRST}, 62 PIO2_0, 63 SWCLK/PIO0_19/TCK, 64 PIO2_1, 65 VBAT, 66 RTCXIN, 67 RTCXOUT, 68 VSS, 69 SWDIO/PIO0_20/SCT1_OUT6/TMS, 70 VDD, 71 ~{RESET}/PIO0_21, 72 PIO2_2, 73 PIO1_6/ACMP_I2, 74 USB_DP, 75 USB_DM, 76 PIO2_3, 77 PIO2_4, 78 PIO0_22/I2C0_SCL, 79 PIO0_23/I2C0_SDA, 80 PIO2_5, 81 PIO1_7/ACMP3_I4, 82 PIO2_6, 83 VDD, 84 PIO1_8/ACMP3_I3/SCT3_OUT4, 85 PIO1_9/ACMP2_I4, 86 PIO2_7, 87 VSS, 88 VSS, 89 VDD, 90 PIO0_24/SCT0_OUT6, 91 PIO1_10/ACMP1_I4, 92 PIO2_8, 93 PIO0_25/ACMP0_I4, 94 PIO2_9, 95 PIO0_26/ACMP0_I3/SCT3_OUT3, 96 PIO2_10, 97 PIO0_27/ACMP_I1, 98 PIO0_28/ACMP1_I3, 99 PIO2_11, 100 PIO0_29/ACMP2_I3/SCT2_OUT4

## NXP LPC176x LQFP100
designator IC?
pins: 1 TDO/SWO, 2 TDI, 3 TMS/SWDIO, 4 ~{TRST}, 5 TCK/SWDCLK, 6 P0[26]/AD0[3]/AOUT/RXD3, 7 P0[25]/AD0[2]/I2SRX_SDA/TXD3, 8 P0[24]/AD0[1]/  I2SRX_WS/CAP3[1], 9 P0[23]/AD0[0]/I2SRX_CLK/CAP3[0], 10 VDDA, 11 VSSA, 12 VREFP, 15 VREFN, 16 RTCX1, 17 ~{RESET}, 18 RTCX2, 19 VBAT, 20 P1[31]/SCK1/AD0[5], 21 P1[30]/VBUS/  AD0[4], 22 XTAL2, 23 XTAL1, 24 P0[28]/SCL0/USB_SCL, 25 P0[27]/SDA0/USB_SDA, 26 P3[26]/STCLK/MAT0[1]/PWM1[3], 27 P3[25]/MAT0[0]/PWM1[2], 28 VDD, 29 P0[29]/USB_D+, 30 P0[30]/USB_D-, 31 VSS, 32 P1[18]/USB_UP_LED/PWM1[1]/CAP1[0], 33 P1[19]/MCOA0/~{USB_PPWR}/CAP1[1], 34 P1[20]/MCI0/PWM1[2]/SCK0, 35 P1[21]/~{MCABORT}/PWM1[3]/SSEL0, 36 P1[22]/MCOB0/USB_PWRD/MAT1[0], 37 P1[23]/MCI1/PWM1[4]/MISO0, 38 P1[24]/MCI2/PWM1[5]/MOSI0, 39 P1[25]/MCOA1/MAT1[1], 40 P1[26]/MCOB1/PWM1[6]/CAP0[0], 41 VSS, 42 VDDREG, 43 P1[27]/CLKOUT/~{USB_OVRCR}/CAP0[1], 44 P1[28]/MCOA2/PCAP1[0]/MAT0[0], 45 P1[29]/MCOB2/PCAP1[1]/MAT0[1], 46 P0[0]/RD1/TXD3/SDA1, 47 P0[1]/TD1/RXD3/SCL1, 48 P0[10]/TXD2/SDA2/MAT3[0], 49 P0[11]/RXD2/SCL2/MAT3[1] , 50 P2[13]/~{EINT3}/I2STX_SDA, 51 P2[12]/~{EINT2}/I2STX_WS, 52 P2[11]/~{EINT1}/I2STX_CLK, 53 P2[10]/~{EINT0}/NMI, 54 VDD, 55 VSS, 56 P0[22]/RTS1/TD1, 57 P0[21]/RI1/RD1, 58 P0[20]/DTR1/SCL1, 59 P0[19]/DSR1/SDA1, 60 P0[18]/DCD1/MOSI0/MOSI, 61 P0[17]/CTS1/MISO0/MISO, 62 P0[15]/TXD1/SCK0/SCK, 63 P0[16]/RXD1/SSEL0/SSEL, 64 P2[9]/USB_CONNECT/RXD2, 65 P2[8]/TD2/TXD2, 66 P2[7]/RD2/RTS1, 67 P2[6]/PCAP1[0]/RI1/TRACECLK, 68 P2[5]/PWM1[6]/DTR1/TRACEDATA[0], 69 P2[4]/PWM1[5]/DSR1/TRACEDATA[1], 70 P2[3]/PWM1[4]/DCD1/TRACEDATA[2], 71 VDD, 72 VSS, 73 P2[2]/PWM1[3]/CTS1/TRACEDATA[3], 74 P2[1]/PWM1[2]/RXD1, 75 P2[0]/PWM1[1]/TXD1, 76 P0[9]/I2STX_SDA/  MOSI1/MAT2[3], 77 P0[8]/I2STX_WS/MISO1/MAT2[2], 78 P0[7]/I2STX_CLK/  SCK1/MAT2[1], 79 P0[6]/I2SRX_SDA/SSEL1/MAT2[0], 80 P0[5]/I2SRX_WS/TD2/CAP2[1], 81 P0[4]/I2SRX_CLK/  RD2/CAP2[0], 82 P4[28]/RX_MCLK/MAT2[0]/TXD3, 83 VSS, 84 VDDREG, 85 P4[29]/TX_MCLK/MAT2[1]/RXD3, 86 P1[17]/ENET_MDIO, 87 P1[16]/ENET_MDC, 88 P1[15]/ENET_REF_CLK, 89 P1[14]/ENET_RX_ER, 90 P1[10]/ENET_RXD1, 91 P1[9]/ENET_RXD0, 92 P1[8]/ENET_CRS, 93 P1[4]/ENET_TX_EN, 94 P1[1]/ENET_TXD1 , 95 P1[0]/ENET_TXD0, 96 VDD, 97 VSS, 98 P0[2]/TXD0/AD0[7], 99 P0[3]/RXD0/AD0[6], 100 RTCK, E8 P2[6]/PCAP1[0]/RI1/TRACECLK

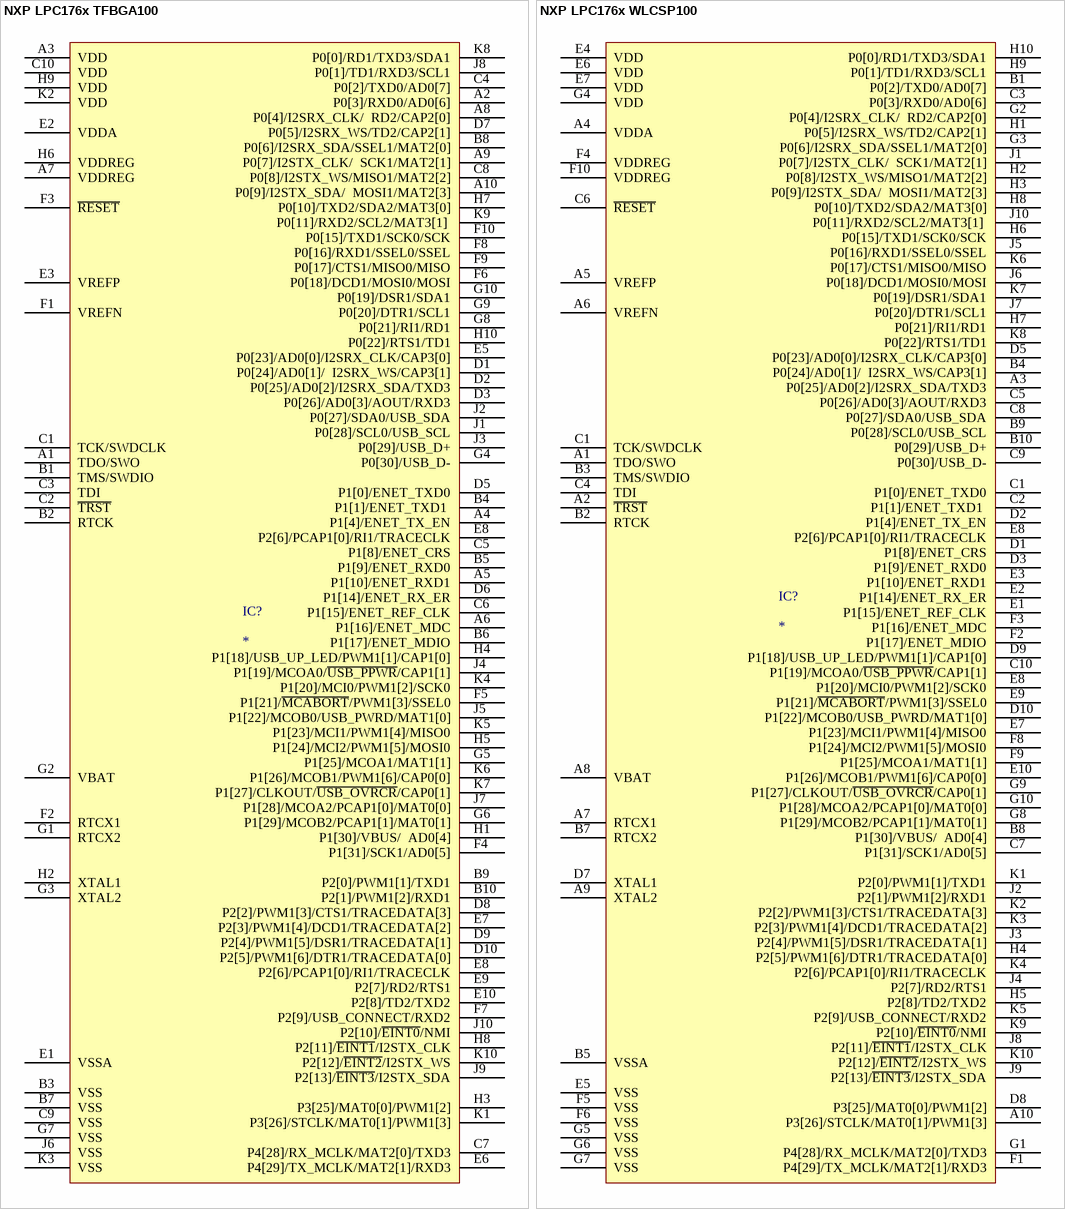
[diagram p6: symbols NXP LPC176x TFBGA100 to NXP LPC176x WLCSP100]

## NXP LPC176x TFBGA100
designator IC?
pins: A1 TDO/SWO, A2 P0[3]/RXD0/AD0[6], A3 VDD, A4 P1[4]/ENET_TX_EN, A5 P1[10]/ENET_RXD1, A6 P1[16]/ENET_MDC, A7 VDDREG, A8 P0[4]/I2SRX_CLK/  RD2/CAP2[0], A9 P0[7]/I2STX_CLK/  SCK1/MAT2[1], A10 P0[9]/I2STX_SDA/  MOSI1/MAT2[3], B1 TMS/SWDIO, B2 RTCK, B3 VSS, B4 P1[1]/ENET_TXD1 , B5 P1[9]/ENET_RXD0, B6 P1[17]/ENET_MDIO, B7 VSS, B8 P0[6]/I2SRX_SDA/SSEL1/MAT2[0], B9 P2[0]/PWM1[1]/TXD1, B10 P2[1]/PWM1[2]/RXD1, C1 TCK/SWDCLK, C2 ~{TRST}, C3 TDI, C4 P0[2]/TXD0/AD0[7], C5 P1[8]/ENET_CRS, C6 P1[15]/ENET_REF_CLK, C7 P4[28]/RX_MCLK/MAT2[0]/TXD3, C8 P0[8]/I2STX_WS/MISO1/MAT2[2], C9 VSS, C10 VDD, D1 P0[24]/AD0[1]/  I2SRX_WS/CAP3[1], D2 P0[25]/AD0[2]/I2SRX_SDA/TXD3, D3 P0[26]/AD0[3]/AOUT/RXD3, D5 P1[0]/ENET_TXD0, D6 P1[14]/ENET_RX_ER, D7 P0[5]/I2SRX_WS/TD2/CAP2[1], D8 P2[2]/PWM1[3]/CTS1/TRACEDATA[3], D9 P2[4]/PWM1[5]/DSR1/TRACEDATA[1], D10 P2[5]/PWM1[6]/DTR1/TRACEDATA[0], E1 VSSA, E2 VDDA, E3 VREFP, E5 P0[23]/AD0[0]/I2SRX_CLK/CAP3[0], E6 P4[29]/TX_MCLK/MAT2[1]/RXD3, E7 P2[3]/PWM1[4]/DCD1/TRACEDATA[2], E8 P2[6]/PCAP1[0]/RI1/TRACECLK, E8 P2[6]/PCAP1[0]/RI1/TRACECLK, E9 P2[7]/RD2/RTS1, E10 P2[8]/TD2/TXD2, F1 VREFN, F2 RTCX1, F3 ~{RESET}, F4 P1[31]/SCK1/AD0[5], F5 P1[21]/~{MCABORT}/PWM1[3]/SSEL0, F6 P0[18]/DCD1/MOSI0/MOSI, F7 P2[9]/USB_CONNECT/RXD2, F8 P0[16]/RXD1/SSEL0/SSEL, F9 P0[17]/CTS1/MISO0/MISO, F10 P0[15]/TXD1/SCK0/SCK, G1 RTCX2, G2 VBAT, G3 XTAL2, G4 P0[30]/USB_D-, G5 P1[25]/MCOA1/MAT1[1], G6 P1[29]/MCOB2/PCAP1[1]/MAT0[1], G7 VSS, G8 P0[21]/RI1/RD1, G9 P0[20]/DTR1/SCL1, G10 P0[19]/DSR1/SDA1, H1 P1[30]/VBUS/  AD0[4], H2 XTAL1, H3 P3[25]/MAT0[0]/PWM1[2], H4 P1[18]/USB_UP_LED/PWM1[1]/CAP1[0], H5 P1[24]/MCI2/PWM1[5]/MOSI0, H6 VDDREG, H7 P0[10]/TXD2/SDA2/MAT3[0], H8 P2[11]/~{EINT1}/I2STX_CLK, H9 VDD, H10 P0[22]/RTS1/TD1, J1 P0[28]/SCL0/USB_SCL, J2 P0[27]/SDA0/USB_SDA, J3 P0[29]/USB_D+, J4 P1[19]/MCOA0/~{USB_PPWR}/CAP1[1], J5 P1[22]/MCOB0/USB_PWRD/MAT1[0], J6 VSS, J7 P1[28]/MCOA2/PCAP1[0]/MAT0[0], J8 P0[1]/TD1/RXD3/SCL1, J9 P2[13]/~{EINT3}/I2STX_SDA, J10 P2[10]/~{EINT0}/NMI, K1 P3[26]/STCLK/MAT0[1]/PWM1[3], K2 VDD, K3 VSS, K4 P1[20]/MCI0/PWM1[2]/SCK0, K5 P1[23]/MCI1/PWM1[4]/MISO0, K6 P1[26]/MCOB1/PWM1[6]/CAP0[0], K7 P1[27]/CLKOUT/~{USB_OVRCR}/CAP0[1], K8 P0[0]/RD1/TXD3/SDA1, K9 P0[11]/RXD2/SCL2/MAT3[1] , K10 P2[12]/~{EINT2}/I2STX_WS

## NXP LPC176x WLCSP100
designator IC?
pins: A1 TDO/SWO, A2 ~{TRST}, A3 P0[25]/AD0[2]/I2SRX_SDA/TXD3, A4 VDDA, A5 VREFP, A6 VREFN, A7 RTCX1, A8 VBAT, A9 XTAL2, A10 P3[26]/STCLK/MAT0[1]/PWM1[3], B1 P0[2]/TXD0/AD0[7], B2 RTCK, B3 TMS/SWDIO, B4 P0[24]/AD0[1]/  I2SRX_WS/CAP3[1], B5 VSSA, B7 RTCX2, B8 P1[30]/VBUS/  AD0[4], B9 P0[28]/SCL0/USB_SCL, B10 P0[29]/USB_D+, C1 TCK/SWDCLK, C1 P1[0]/ENET_TXD0, C2 P1[1]/ENET_TXD1 , C3 P0[3]/RXD0/AD0[6], C4 TDI, C5 P0[26]/AD0[3]/AOUT/RXD3, C6 ~{RESET}, C7 P1[31]/SCK1/AD0[5], C8 P0[27]/SDA0/USB_SDA, C9 P0[30]/USB_D-, C10 P1[19]/MCOA0/~{USB_PPWR}/CAP1[1], D1 P1[8]/ENET_CRS, D2 P1[4]/ENET_TX_EN, D3 P1[9]/ENET_RXD0, D5 P0[23]/AD0[0]/I2SRX_CLK/CAP3[0], D7 XTAL1, D8 P3[25]/MAT0[0]/PWM1[2], D9 P1[18]/USB_UP_LED/PWM1[1]/CAP1[0], D10 P1[22]/MCOB0/USB_PWRD/MAT1[0], E1 P1[15]/ENET_REF_CLK, E2 P1[14]/ENET_RX_ER, E3 P1[10]/ENET_RXD1, E4 VDD, E5 VSS, E6 VDD, E7 VDD, E7 P1[23]/MCI1/PWM1[4]/MISO0, E8 P2[6]/PCAP1[0]/RI1/TRACECLK, E8 P1[20]/MCI0/PWM1[2]/SCK0, E9 P1[21]/~{MCABORT}/PWM1[3]/SSEL0, E10 P1[26]/MCOB1/PWM1[6]/CAP0[0], F1 P4[29]/TX_MCLK/MAT2[1]/RXD3, F2 P1[17]/ENET_MDIO, F3 P1[16]/ENET_MDC, F4 VDDREG, F5 VSS, F6 VSS, F8 P1[24]/MCI2/PWM1[5]/MOSI0, F9 P1[25]/MCOA1/MAT1[1], F10 VDDREG, G1 P4[28]/RX_MCLK/MAT2[0]/TXD3, G2 P0[4]/I2SRX_CLK/  RD2/CAP2[0], G3 P0[6]/I2SRX_SDA/SSEL1/MAT2[0], G4 VDD, G5 VSS, G6 VSS, G7 VSS, G8 P1[29]/MCOB2/PCAP1[1]/MAT0[1], G9 P1[27]/CLKOUT/~{USB_OVRCR}/CAP0[1], G10 P1[28]/MCOA2/PCAP1[0]/MAT0[0], H1 P0[5]/I2SRX_WS/TD2/CAP2[1], H2 P0[8]/I2STX_WS/MISO1/MAT2[2], H3 P0[9]/I2STX_SDA/  MOSI1/MAT2[3], H4 P2[5]/PWM1[6]/DTR1/TRACEDATA[0], H5 P2[8]/TD2/TXD2, H6 P0[15]/TXD1/SCK0/SCK, H7 P0[21]/RI1/RD1, H8 P0[10]/TXD2/SDA2/MAT3[0], H9 P0[1]/TD1/RXD3/SCL1, H10 P0[0]/RD1/TXD3/SDA1, J1 P0[7]/I2STX_CLK/  SCK1/MAT2[1], J2 P2[1]/PWM1[2]/RXD1, J3 P2[4]/PWM1[5]/DSR1/TRACEDATA[1], J4 P2[7]/RD2/RTS1, J5 P0[16]/RXD1/SSEL0/SSEL, J6 P0[18]/DCD1/MOSI0/MOSI, J7 P0[20]/DTR1/SCL1, J8 P2[11]/~{EINT1}/I2STX_CLK, J9 P2[13]/~{EINT3}/I2STX_SDA, J10 P0[11]/RXD2/SCL2/MAT3[1] , K1 P2[0]/PWM1[1]/TXD1, K2 P2[2]/PWM1[3]/CTS1/TRACEDATA[3], K3 P2[3]/PWM1[4]/DCD1/TRACEDATA[2], K4 P2[6]/PCAP1[0]/RI1/TRACECLK, K5 P2[9]/USB_CONNECT/RXD2, K6 P0[17]/CTS1/MISO0/MISO, K7 P0[19]/DSR1/SDA1, K8 P0[22]/RTS1/TD1, K9 P2[10]/~{EINT0}/NMI, K10 P2[12]/~{EINT2}/I2STX_WS

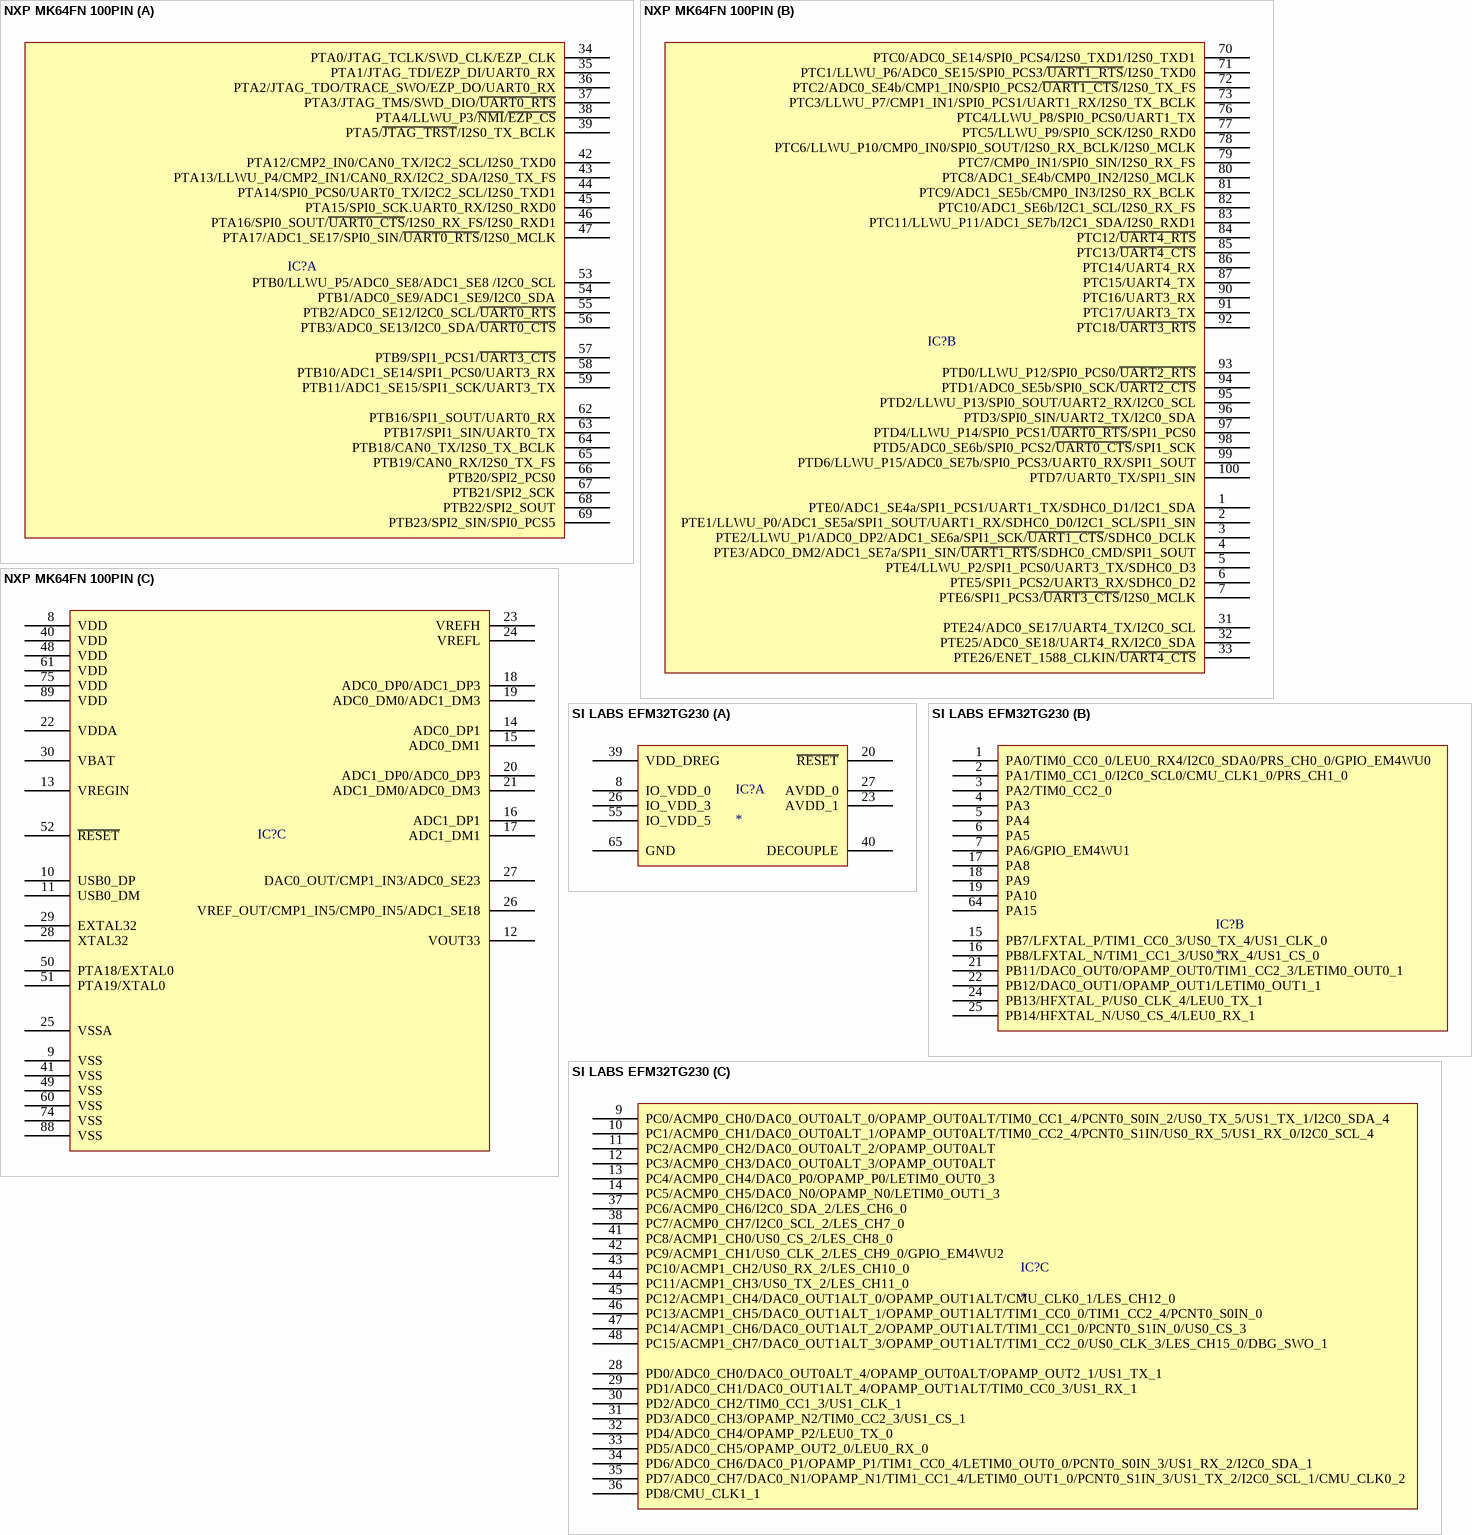
[diagram p7: symbols NXP MK64FN 100PIN to SI LABS EFM32TG230]

## NXP MK64FN 100PIN
designator IC?
part A pins: 34 PTA0/JTAG_TCLK/SWD_CLK/EZP_CLK, 35 PTA1/JTAG_TDI/EZP_DI/UART0_RX, 36 PTA2/JTAG_TDO/TRACE_SWO/EZP_DO/UART0_RX, 37 PTA3/JTAG_TMS/SWD_DIO/~{UART0_RTS}, 38 PTA4/LLWU_P3/~{NMI}/~{EZP_CS}, 39 PTA5/~{JTAG_TRST}/I2S0_TX_BCLK, 42 PTA12/CMP2_IN0/CAN0_TX/I2C2_SCL/I2S0_TXD0, 43 PTA13/LLWU_P4/CMP2_IN1/CAN0_RX/I2C2_SDA/I2S0_TX_FS, 44 PTA14/SPI0_PCS0/UART0_TX/I2C2_SCL/I2S0_TXD1, 45 PTA15/SPI0_SCK.UART0_RX/I2S0_RXD0, 46 PTA16/SPI0_SOUT/~{UART0_CTS}/I2S0_RX_FS/I2S0_RXD1, 47 PTA17/ADC1_SE17/SPI0_SIN/~{UART0_RTS}/I2S0_MCLK, 53 PTB0/LLWU_P5/ADC0_SE8/ADC1_SE8 /I2C0_SCL, 54 PTB1/ADC0_SE9/ADC1_SE9/I2C0_SDA, 55 PTB2/ADC0_SE12/I2C0_SCL/~{UART0_RTS}, 56 PTB3/ADC0_SE13/I2C0_SDA/~{UART0_CTS}, 57 PTB9/SPI1_PCS1/~{UART3_CTS}, 58 PTB10/ADC1_SE14/SPI1_PCS0/UART3_RX, 59 PTB11/ADC1_SE15/SPI1_SCK/UART3_TX, 62 PTB16/SPI1_SOUT/UART0_RX, 63 PTB17/SPI1_SIN/UART0_TX, 64 PTB18/CAN0_TX/I2S0_TX_BCLK, 65 PTB19/CAN0_RX/I2S0_TX_FS, 66 PTB20/SPI2_PCS0, 67 PTB21/SPI2_SCK, 68 PTB22/SPI2_SOUT, 69 PTB23/SPI2_SIN/SPI0_PCS5
part B pins: 1 PTE0/ADC1_SE4a/SPI1_PCS1/UART1_TX/SDHC0_D1/I2C1_SDA, 2 PTE1/LLWU_P0/ADC1_SE5a/SPI1_SOUT/UART1_RX/SDHC0_D0/I2C1_SCL/SPI1_SIN, 3 PTE2/LLWU_P1/ADC0_DP2/ADC1_SE6a/SPI1_SCK/~{UART1_CTS}/SDHC0_DCLK, 4 PTE3/ADC0_DM2/ADC1_SE7a/SPI1_SIN/~{UART1_RTS}/SDHC0_CMD/SPI1_SOUT, 5 PTE4/LLWU_P2/SPI1_PCS0/UART3_TX/SDHC0_D3, 6 PTE5/SPI1_PCS2/UART3_RX/SDHC0_D2, 7 PTE6/SPI1_PCS3/~{UART3_CTS}/I2S0_MCLK, 31 PTE24/ADC0_SE17/UART4_TX/I2C0_SCL, 32 PTE25/ADC0_SE18/UART4_RX/I2C0_SDA, 33 PTE26/ENET_1588_CLKIN/~{UART4_CTS}, 70 PTC0/ADC0_SE14/SPI0_PCS4/I2S0_TXD1/I2S0_TXD1, 71 PTC1/LLWU_P6/ADC0_SE15/SPI0_PCS3/~{UART1_RTS}/I2S0_TXD0, 72 PTC2/ADC0_SE4b/CMP1_IN0/SPI0_PCS2/~{UART1_CTS}/I2S0_TX_FS, 73 PTC3/LLWU_P7/CMP1_IN1/SPI0_PCS1/UART1_RX/I2S0_TX_BCLK, 76 PTC4/LLWU_P8/SPI0_PCS0/UART1_TX, 77 PTC5/LLWU_P9/SPI0_SCK/I2S0_RXD0, 78 PTC6/LLWU_P10/CMP0_IN0/SPI0_SOUT/I2S0_RX_BCLK/I2S0_MCLK, 79 PTC7/CMP0_IN1/SPI0_SIN/I2S0_RX_FS, 80 PTC8/ADC1_SE4b/CMP0_IN2/I2S0_MCLK, 81 PTC9/ADC1_SE5b/CMP0_IN3/I2S0_RX_BCLK, 82 PTC10/ADC1_SE6b/I2C1_SCL/I2S0_RX_FS, 83 PTC11/LLWU_P11/ADC1_SE7b/I2C1_SDA/I2S0_RXD1, 84 PTC12/~{UART4_RTS}, 85 PTC13/~{UART4_CTS}, 86 PTC14/UART4_RX, 87 PTC15/UART4_TX, 90 PTC16/UART3_RX, 91 PTC17/UART3_TX, 92 PTC18/~{UART3_RTS}, 93 PTD0/LLWU_P12/SPI0_PCS0/~{UART2_RTS}, 94 PTD1/ADC0_SE5b/SPI0_SCK/~{UART2_CTS}, 95 PTD2/LLWU_P13/SPI0_SOUT/UART2_RX/I2C0_SCL, 96 PTD3/SPI0_SIN/UART2_TX/I2C0_SDA, 97 PTD4/LLWU_P14/SPI0_PCS1/~{UART0_RTS}/SPI1_PCS0, 98 PTD5/ADC0_SE6b/SPI0_PCS2/~{UART0_CTS}/SPI1_SCK, 99 PTD6/LLWU_P15/ADC0_SE7b/SPI0_PCS3/UART0_RX/SPI1_SOUT, 100 PTD7/UART0_TX/SPI1_SIN
part C pins: 8 VDD, 9 VSS, 10 USB0_DP, 11 USB0_DM, 12 VOUT33, 13 VREGIN, 14 ADC0_DP1, 15 ADC0_DM1, 16 ADC1_DP1, 17 ADC1_DM1, 18 ADC0_DP0/ADC1_DP3, 19 ADC0_DM0/ADC1_DM3, 20 ADC1_DP0/ADC0_DP3, 21 ADC1_DM0/ADC0_DM3, 22 VDDA, 23 VREFH, 24 VREFL, 25 VSSA, 26 VREF_OUT/CMP1_IN5/CMP0_IN5/ADC1_SE18, 27 DAC0_OUT/CMP1_IN3/ADC0_SE23, 28 XTAL32, 29 EXTAL32, 30 VBAT, 40 VDD, 41 VSS, 48 VDD, 49 VSS, 50 PTA18/EXTAL0 , 51 PTA19/XTAL0, 52 ~{RESET}, 60 VSS, 61 VDD, 74 VSS, 75 VDD, 88 VSS, 89 VDD

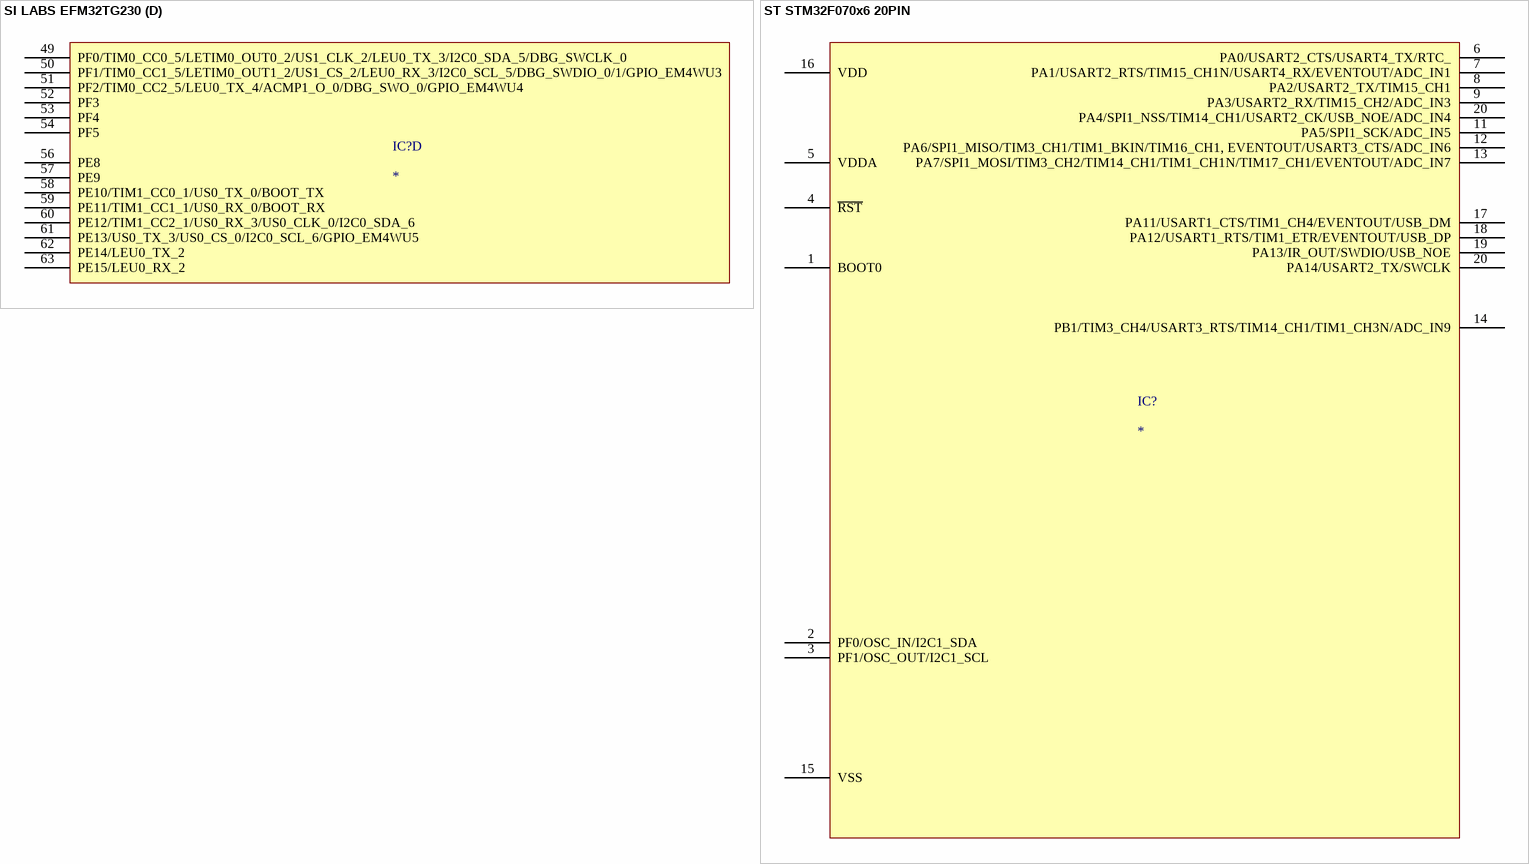
[diagram p8: symbols SI LABS EFM32TG230 to ST STM32F070x6 20PIN]

## SI LABS EFM32TG230
designator IC?
part A pins: 8 IO_VDD_0, 20 ~{RESET}, 23 AVDD_1, 26 IO_VDD_3, 27 AVDD_0, 39 VDD_DREG , 40 DECOUPLE, 55 IO_VDD_5, 65 GND
part B pins: 1 PA0/TIM0_CC0_0/LEU0_RX4/I2C0_SDA0/PRS_CH0_0/GPIO_EM4WU0, 2 PA1/TIM0_CC1_0/I2C0_SCL0/CMU_CLK1_0/PRS_CH1_0, 3 PA2/TIM0_CC2_0, 4 PA3, 5 PA4, 6 PA5, 7 PA6/GPIO_EM4WU1, 15 PB7/LFXTAL_P/TIM1_CC0_3/US0_TX_4/US1_CLK_0, 16 PB8/LFXTAL_N/TIM1_CC1_3/US0_RX_4/US1_CS_0, 17 PA8, 18 PA9, 19 PA10, 21 PB11/DAC0_OUT0/OPAMP_OUT0/TIM1_CC2_3/LETIM0_OUT0_1, 22 PB12/DAC0_OUT1/OPAMP_OUT1/LETIM0_OUT1_1, 24 PB13/HFXTAL_P/US0_CLK_4/LEU0_TX_1, 25 PB14/HFXTAL_N/US0_CS_4/LEU0_RX_1, 64 PA15
part C pins: 9 PC0/ACMP0_CH0/DAC0_OUT0ALT_0/OPAMP_OUT0ALT/TIM0_CC1_4/PCNT0_S0IN_2/US0_TX_5/US1_TX_1/I2C0_SDA_4, 10 PC1/ACMP0_CH1/DAC0_OUT0ALT_1/OPAMP_OUT0ALT/TIM0_CC2_4/PCNT0_S1IN/US0_RX_5/US1_RX_0/I2C0_SCL_4, 11 PC2/ACMP0_CH2/DAC0_OUT0ALT_2/OPAMP_OUT0ALT, 12 PC3/ACMP0_CH3/DAC0_OUT0ALT_3/OPAMP_OUT0ALT, 13 PC4/ACMP0_CH4/DAC0_P0/OPAMP_P0/LETIM0_OUT0_3, 14 PC5/ACMP0_CH5/DAC0_N0/OPAMP_N0/LETIM0_OUT1_3, 28 PD0/ADC0_CH0/DAC0_OUT0ALT_4/OPAMP_OUT0ALT/OPAMP_OUT2_1/US1_TX_1, 29 PD1/ADC0_CH1/DAC0_OUT1ALT_4/OPAMP_OUT1ALT/TIM0_CC0_3/US1_RX_1, 30 PD2/ADC0_CH2/TIM0_CC1_3/US1_CLK_1, 31 PD3/ADC0_CH3/OPAMP_N2/TIM0_CC2_3/US1_CS_1, 32 PD4/ADC0_CH4/OPAMP_P2/LEU0_TX_0, 33 PD5/ADC0_CH5/OPAMP_OUT2_0/LEU0_RX_0, 34 PD6/ADC0_CH6/DAC0_P1/OPAMP_P1/TIM1_CC0_4/LETIM0_OUT0_0/PCNT0_S0IN_3/US1_RX_2/I2C0_SDA_1, 35 PD7/ADC0_CH7/DAC0_N1/OPAMP_N1/TIM1_CC1_4/LETIM0_OUT1_0/PCNT0_S1IN_3/US1_TX_2/I2C0_SCL_1/CMU_CLK0_2, 36 PD8/CMU_CLK1_1, 37 PC6/ACMP0_CH6/I2C0_SDA_2/LES_CH6_0, 38 PC7/ACMP0_CH7/I2C0_SCL_2/LES_CH7_0, 41 PC8/ACMP1_CH0/US0_CS_2/LES_CH8_0, 42 PC9/ACMP1_CH1/US0_CLK_2/LES_CH9_0/GPIO_EM4WU2, 43 PC10/ACMP1_CH2/US0_RX_2/LES_CH10_0, 44 PC11/ACMP1_CH3/US0_TX_2/LES_CH11_0, 45 PC12/ACMP1_CH4/DAC0_OUT1ALT_0/OPAMP_OUT1ALT/CMU_CLK0_1/LES_CH12_0, 46 PC13/ACMP1_CH5/DAC0_OUT1ALT_1/OPAMP_OUT1ALT/TIM1_CC0_0/TIM1_CC2_4/PCNT0_S0IN_0, 47 PC14/ACMP1_CH6/DAC0_OUT1ALT_2/OPAMP_OUT1ALT/TIM1_CC1_0/PCNT0_S1IN_0/US0_CS_3, 48 PC15/ACMP1_CH7/DAC0_OUT1ALT_3/OPAMP_OUT1ALT/TIM1_CC2_0/US0_CLK_3/LES_CH15_0/DBG_SWO_1
part D pins: 49 PF0/TIM0_CC0_5/LETIM0_OUT0_2/US1_CLK_2/LEU0_TX_3/I2C0_SDA_5/DBG_SWCLK_0, 50 PF1/TIM0_CC1_5/LETIM0_OUT1_2/US1_CS_2/LEU0_RX_3/I2C0_SCL_5/DBG_SWDIO_0/1/GPIO_EM4WU3, 51 PF2/TIM0_CC2_5/LEU0_TX_4/ACMP1_O_0/DBG_SWO_0/GPIO_EM4WU4, 52 PF3, 53 PF4, 54 PF5, 56 PE8, 57 PE9, 58 PE10/TIM1_CC0_1/US0_TX_0/BOOT_TX, 59 PE11/TIM1_CC1_1/US0_RX_0/BOOT_RX, 60 PE12/TIM1_CC2_1/US0_RX_3/US0_CLK_0/I2C0_SDA_6, 61 PE13/US0_TX_3/US0_CS_0/I2C0_SCL_6/GPIO_EM4WU5, 62 PE14/LEU0_TX_2, 63 PE15/LEU0_RX_2

## ST STM32F070x6 20PIN
designator IC?
pins: 1 BOOT0, 2 PF0/OSC_IN/I2C1_SDA, 3 PF1/OSC_OUT/I2C1_SCL, 4 ~{RST}, 5 VDDA, 6 PA0/USART2_CTS/USART4_TX/RTC_, 7 PA1/USART2_RTS/TIM15_CH1N/USART4_RX/EVENTOUT/ADC_IN1, 8 PA2/USART2_TX/TIM15_CH1, 9 PA3/USART2_RX/TIM15_CH2/ADC_IN3, 11 PA5/SPI1_SCK/ADC_IN5, 12 PA6/SPI1_MISO/TIM3_CH1/TIM1_BKIN/TIM16_CH1, EVENTOUT/USART3_CTS/ADC_IN6, 13 PA7/SPI1_MOSI/TIM3_CH2/TIM14_CH1/TIM1_CH1N/TIM17_CH1/EVENTOUT/ADC_IN7, 14 PB1/TIM3_CH4/USART3_RTS/TIM14_CH1/TIM1_CH3N/ADC_IN9, 15 VSS, 16 VDD, 17 PA11/USART1_CTS/TIM1_CH4/EVENTOUT/USB_DM, 18 PA12/USART1_RTS/TIM1_ETR/EVENTOUT/USB_DP, 19 PA13/IR_OUT/SWDIO/USB_NOE, 20 PA4/SPI1_NSS/TIM14_CH1/USART2_CK/USB_NOE/ADC_IN4, 20 PA14/USART2_TX/SWCLK

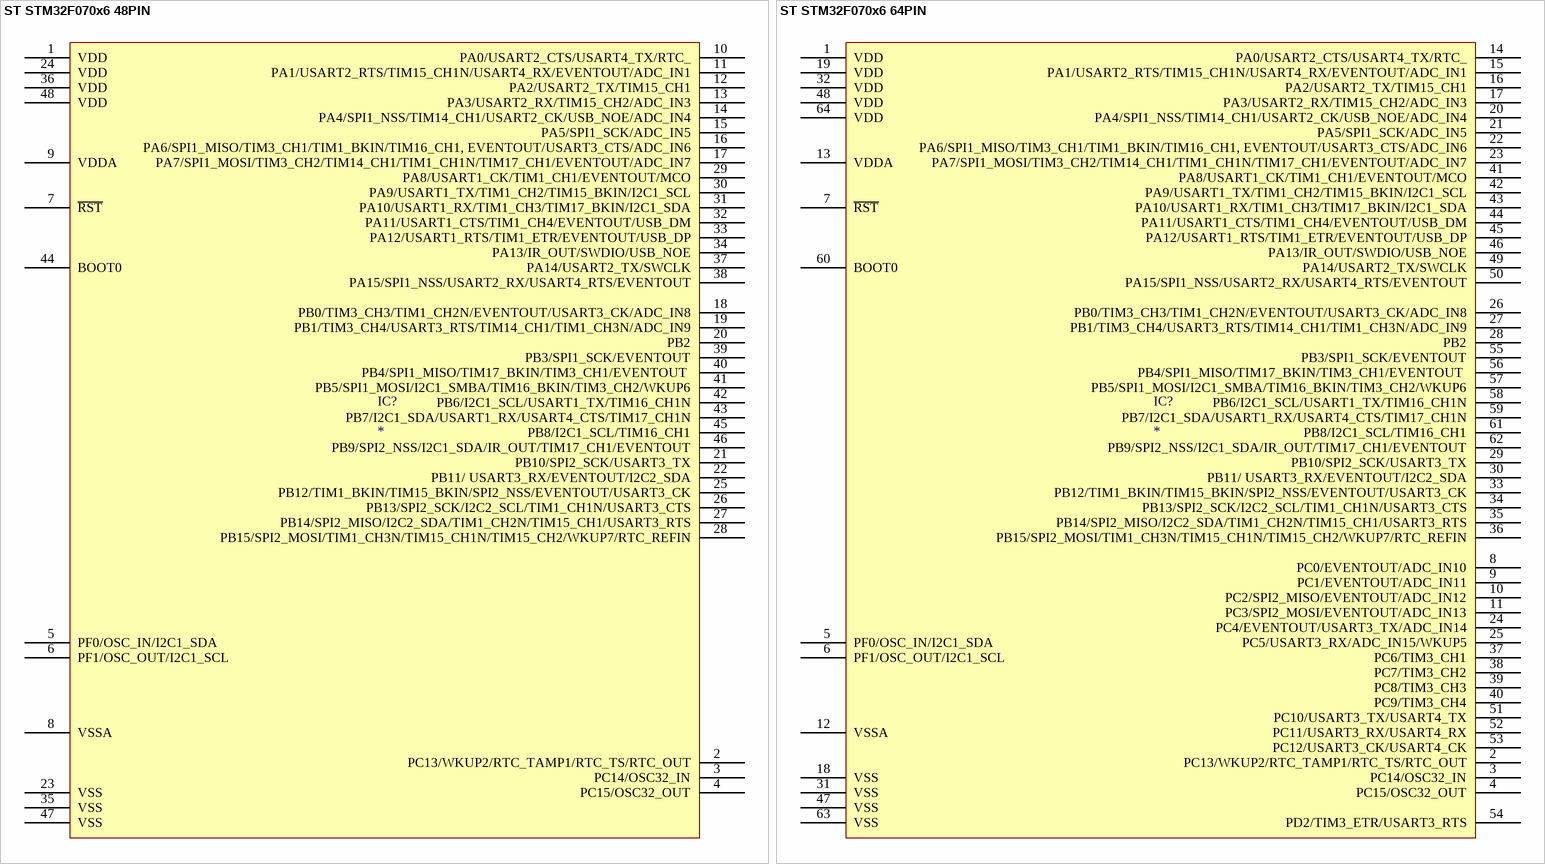
[diagram p9: symbols ST STM32F070x6 48PIN to ST STM32F070x6 64PIN]

## ST STM32F070x6 48PIN
designator IC?
pins: 1 VDD, 2 PC13/WKUP2/RTC_TAMP1/RTC_TS/RTC_OUT, 3 PC14/OSC32_IN, 4 PC15/OSC32_OUT, 5 PF0/OSC_IN/I2C1_SDA, 6 PF1/OSC_OUT/I2C1_SCL, 7 ~{RST}, 8 VSSA, 9 VDDA, 10 PA0/USART2_CTS/USART4_TX/RTC_, 11 PA1/USART2_RTS/TIM15_CH1N/USART4_RX/EVENTOUT/ADC_IN1, 12 PA2/USART2_TX/TIM15_CH1, 13 PA3/USART2_RX/TIM15_CH2/ADC_IN3, 14 PA4/SPI1_NSS/TIM14_CH1/USART2_CK/USB_NOE/ADC_IN4, 15 PA5/SPI1_SCK/ADC_IN5, 16 PA6/SPI1_MISO/TIM3_CH1/TIM1_BKIN/TIM16_CH1, EVENTOUT/USART3_CTS/ADC_IN6, 17 PA7/SPI1_MOSI/TIM3_CH2/TIM14_CH1/TIM1_CH1N/TIM17_CH1/EVENTOUT/ADC_IN7, 18 PB0/TIM3_CH3/TIM1_CH2N/EVENTOUT/USART3_CK/ADC_IN8, 19 PB1/TIM3_CH4/USART3_RTS/TIM14_CH1/TIM1_CH3N/ADC_IN9, 20 PB2, 21 PB10/SPI2_SCK/USART3_TX, 22 PB11/ USART3_RX/EVENTOUT/I2C2_SDA, 23 VSS, 24 VDD, 25 PB12/TIM1_BKIN/TIM15_BKIN/SPI2_NSS/EVENTOUT/USART3_CK, 26 PB13/SPI2_SCK/I2C2_SCL/TIM1_CH1N/USART3_CTS, 27 PB14/SPI2_MISO/I2C2_SDA/TIM1_CH2N/TIM15_CH1/USART3_RTS, 28 PB15/SPI2_MOSI/TIM1_CH3N/TIM15_CH1N/TIM15_CH2/WKUP7/RTC_REFIN, 29 PA8/USART1_CK/TIM1_CH1/EVENTOUT/MCO, 30 PA9/USART1_TX/TIM1_CH2/TIM15_BKIN/I2C1_SCL, 31 PA10/USART1_RX/TIM1_CH3/TIM17_BKIN/I2C1_SDA, 32 PA11/USART1_CTS/TIM1_CH4/EVENTOUT/USB_DM, 33 PA12/USART1_RTS/TIM1_ETR/EVENTOUT/USB_DP, 34 PA13/IR_OUT/SWDIO/USB_NOE, 35 VSS, 36 VDD, 37 PA14/USART2_TX/SWCLK, 38 PA15/SPI1_NSS/USART2_RX/USART4_RTS/EVENTOUT, 39 PB3/SPI1_SCK/EVENTOUT, 40 PB4/SPI1_MISO/TIM17_BKIN/TIM3_CH1/EVENTOUT , 41 PB5/SPI1_MOSI/I2C1_SMBA/TIM16_BKIN/TIM3_CH2/WKUP6, 42 PB6/I2C1_SCL/USART1_TX/TIM16_CH1N, 43 PB7/I2C1_SDA/USART1_RX/USART4_CTS/TIM17_CH1N, 44 BOOT0, 45 PB8/I2C1_SCL/TIM16_CH1, 46 PB9/SPI2_NSS/I2C1_SDA/IR_OUT/TIM17_CH1/EVENTOUT, 47 VSS, 48 VDD

## ST STM32F070x6 64PIN
designator IC?
pins: 1 VDD, 2 PC13/WKUP2/RTC_TAMP1/RTC_TS/RTC_OUT, 3 PC14/OSC32_IN, 4 PC15/OSC32_OUT, 5 PF0/OSC_IN/I2C1_SDA, 6 PF1/OSC_OUT/I2C1_SCL, 7 ~{RST}, 8 PC0/EVENTOUT/ADC_IN10, 9 PC1/EVENTOUT/ADC_IN11, 10 PC2/SPI2_MISO/EVENTOUT/ADC_IN12, 11 PC3/SPI2_MOSI/EVENTOUT/ADC_IN13, 12 VSSA, 13 VDDA, 14 PA0/USART2_CTS/USART4_TX/RTC_, 15 PA1/USART2_RTS/TIM15_CH1N/USART4_RX/EVENTOUT/ADC_IN1, 16 PA2/USART2_TX/TIM15_CH1, 17 PA3/USART2_RX/TIM15_CH2/ADC_IN3, 18 VSS, 19 VDD, 20 PA4/SPI1_NSS/TIM14_CH1/USART2_CK/USB_NOE/ADC_IN4, 21 PA5/SPI1_SCK/ADC_IN5, 22 PA6/SPI1_MISO/TIM3_CH1/TIM1_BKIN/TIM16_CH1, EVENTOUT/USART3_CTS/ADC_IN6, 23 PA7/SPI1_MOSI/TIM3_CH2/TIM14_CH1/TIM1_CH1N/TIM17_CH1/EVENTOUT/ADC_IN7, 24 PC4/EVENTOUT/USART3_TX/ADC_IN14, 25 PC5/USART3_RX/ADC_IN15/WKUP5, 26 PB0/TIM3_CH3/TIM1_CH2N/EVENTOUT/USART3_CK/ADC_IN8, 27 PB1/TIM3_CH4/USART3_RTS/TIM14_CH1/TIM1_CH3N/ADC_IN9, 28 PB2, 29 PB10/SPI2_SCK/USART3_TX, 30 PB11/ USART3_RX/EVENTOUT/I2C2_SDA, 31 VSS, 32 VDD, 33 PB12/TIM1_BKIN/TIM15_BKIN/SPI2_NSS/EVENTOUT/USART3_CK, 34 PB13/SPI2_SCK/I2C2_SCL/TIM1_CH1N/USART3_CTS, 35 PB14/SPI2_MISO/I2C2_SDA/TIM1_CH2N/TIM15_CH1/USART3_RTS, 36 PB15/SPI2_MOSI/TIM1_CH3N/TIM15_CH1N/TIM15_CH2/WKUP7/RTC_REFIN, 37 PC6/TIM3_CH1, 38 PC7/TIM3_CH2, 39 PC8/TIM3_CH3, 40 PC9/TIM3_CH4, 41 PA8/USART1_CK/TIM1_CH1/EVENTOUT/MCO, 42 PA9/USART1_TX/TIM1_CH2/TIM15_BKIN/I2C1_SCL, 43 PA10/USART1_RX/TIM1_CH3/TIM17_BKIN/I2C1_SDA, 44 PA11/USART1_CTS/TIM1_CH4/EVENTOUT/USB_DM, 45 PA12/USART1_RTS/TIM1_ETR/EVENTOUT/USB_DP, 46 PA13/IR_OUT/SWDIO/USB_NOE, 47 VSS, 48 VDD, 49 PA14/USART2_TX/SWCLK, 50 PA15/SPI1_NSS/USART2_RX/USART4_RTS/EVENTOUT, 51 PC10/USART3_TX/USART4_TX, 52 PC11/USART3_RX/USART4_RX, 53 PC12/USART3_CK/USART4_CK, 54 PD2/TIM3_ETR/USART3_RTS, 55 PB3/SPI1_SCK/EVENTOUT, 56 PB4/SPI1_MISO/TIM17_BKIN/TIM3_CH1/EVENTOUT , 57 PB5/SPI1_MOSI/I2C1_SMBA/TIM16_BKIN/TIM3_CH2/WKUP6, 58 PB6/I2C1_SCL/USART1_TX/TIM16_CH1N, 59 PB7/I2C1_SDA/USART1_RX/USART4_CTS/TIM17_CH1N, 60 BOOT0, 61 PB8/I2C1_SCL/TIM16_CH1, 62 PB9/SPI2_NSS/I2C1_SDA/IR_OUT/TIM17_CH1/EVENTOUT, 63 VSS, 64 VDD

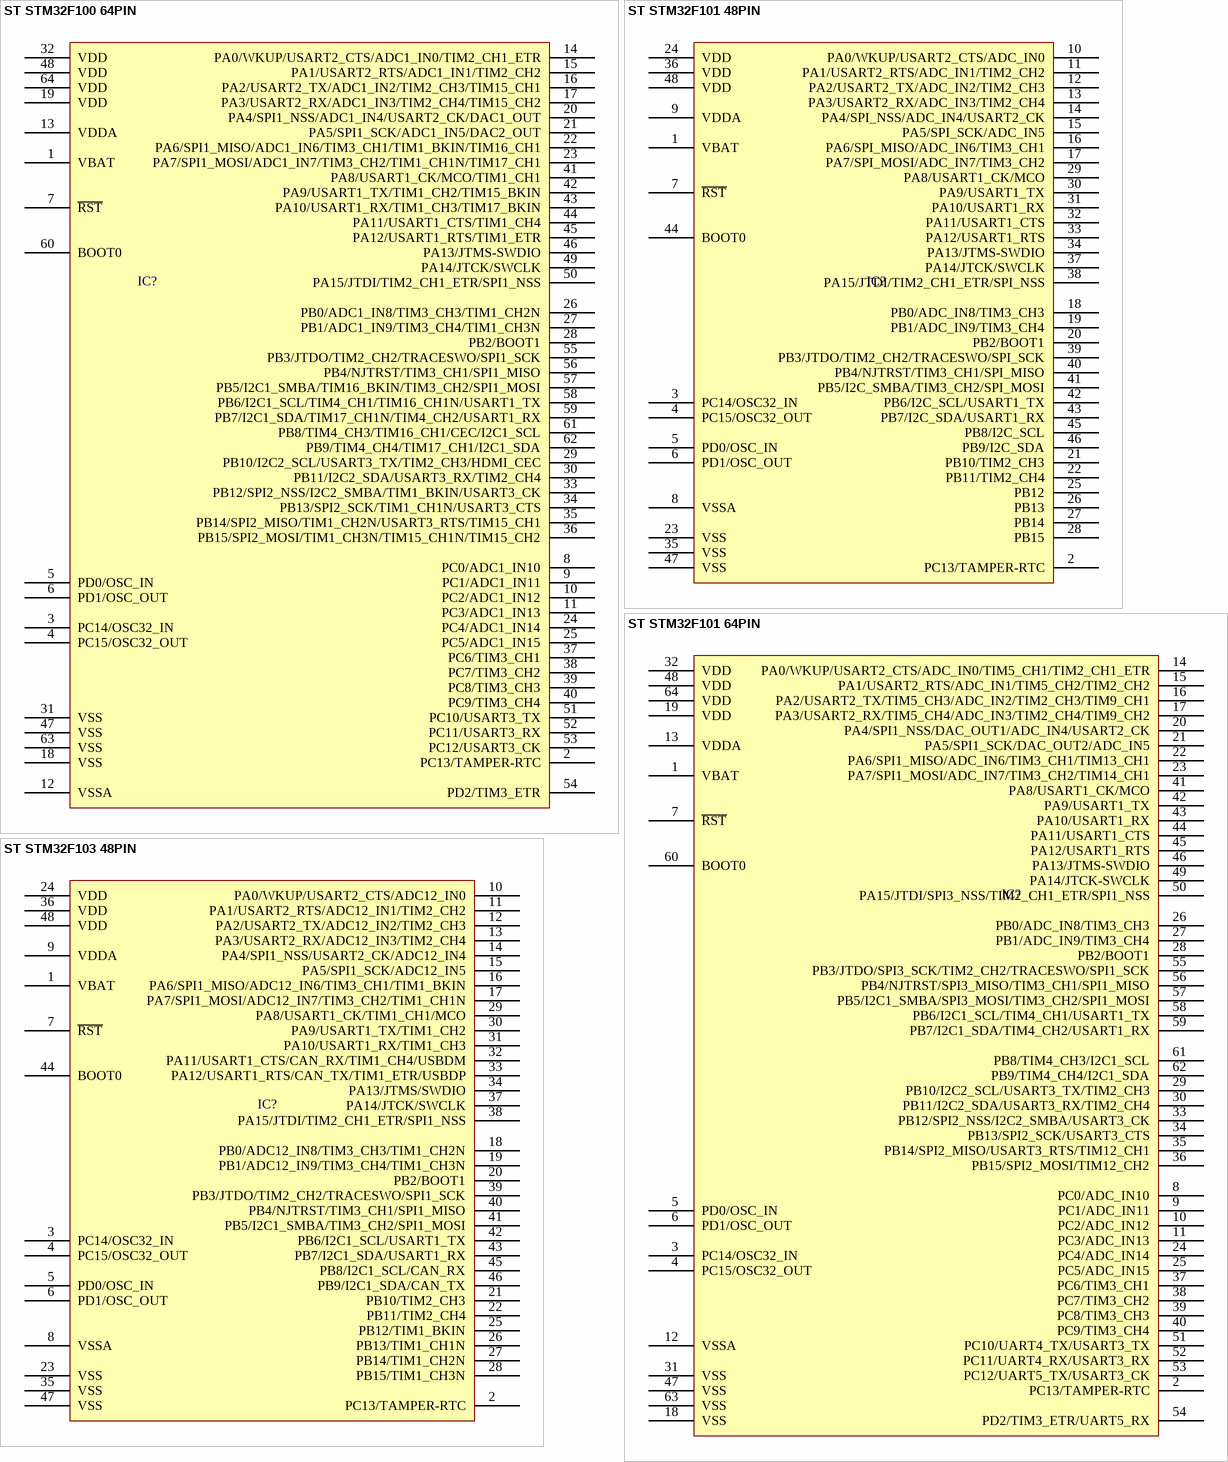
[diagram p10: symbols ST STM32F100 64PIN to ST STM32F103 48PIN]

## ST STM32F100 64PIN
designator IC?
pins: 1 VBAT, 2 PC13/TAMPER-RTC, 3 PC14/OSC32_IN "PC14-OSC32_IN/PC14/OSC32_IN", 4 PC15/OSC32_OUT "PC15-OSC32_OUT/PC15/OSC32_OUT", 5 PD0/OSC_IN, 6 PD1/OSC_OUT, 7 ~{RST} "NRST", 8 PC0/ADC1_IN10, 9 PC1/ADC1_IN11, 10 PC2/ADC1_IN12, 11 PC3/ADC1_IN13, 12 VSSA, 13 VDDA, 14 PA0/WKUP/USART2_CTS/ADC1_IN0/TIM2_CH1_ETR, 15 PA1/USART2_RTS/ADC1_IN1/TIM2_CH2, 16 PA2/USART2_TX/ADC1_IN2/TIM2_CH3/TIM15_CH1, 17 PA3/USART2_RX/ADC1_IN3/TIM2_CH4/TIM15_CH2, 18 VSS, 19 VDD, 20 PA4/SPI1_NSS/ADC1_IN4/USART2_CK/DAC1_OUT, 21 PA5/SPI1_SCK/ADC1_IN5/DAC2_OUT, 22 PA6/SPI1_MISO/ADC1_IN6/TIM3_CH1/TIM1_BKIN/TIM16_CH1, 23 PA7/SPI1_MOSI/ADC1_IN7/TIM3_CH2/TIM1_CH1N/TIM17_CH1, 24 PC4/ADC1_IN14, 25 PC5/ADC1_IN15, 26 PB0/ADC1_IN8/TIM3_CH3/TIM1_CH2N, 27 PB1/ADC1_IN9/TIM3_CH4/TIM1_CH3N, 28 PB2/BOOT1, 29 PB10/I2C2_SCL/USART3_TX/TIM2_CH3/HDMI_CEC, 30 PB11/I2C2_SDA/USART3_RX/TIM2_CH4, 31 VSS, 32 VDD, 33 PB12/SPI2_NSS/I2C2_SMBA/TIM1_BKIN/USART3_CK, 34 PB13/SPI2_SCK/TIM1_CH1N/USART3_CTS, 35 PB14/SPI2_MISO/TIM1_CH2N/USART3_RTS/TIM15_CH1, 36 PB15/SPI2_MOSI/TIM1_CH3N/TIM15_CH1N/TIM15_CH2, 37 PC6/TIM3_CH1, 38 PC7/TIM3_CH2, 39 PC8/TIM3_CH3, 40 PC9/TIM3_CH4, 41 PA8/USART1_CK/MCO/TIM1_CH1, 42 PA9/USART1_TX/TIM1_CH2/TIM15_BKIN, 43 PA10/USART1_RX/TIM1_CH3/TIM17_BKIN, 44 PA11/USART1_CTS/TIM1_CH4, 45 PA12/USART1_RTS/TIM1_ETR, 46 PA13/JTMS-SWDIO, 47 VSS, 48 VDD, 49 PA14/JTCK/SWCLK, 50 PA15/JTDI/TIM2_CH1_ETR/SPI1_NSS, 51 PC10/USART3_TX, 52 PC11/USART3_RX, 53 PC12/USART3_CK, 54 PD2/TIM3_ETR, 55 PB3/JTDO/TIM2_CH2/TRACESWO/SPI1_SCK, 56 PB4/NJTRST/TIM3_CH1/SPI1_MISO, 57 PB5/I2C1_SMBA/TIM16_BKIN/TIM3_CH2/SPI1_MOSI, 58 PB6/I2C1_SCL/TIM4_CH1/TIM16_CH1N/USART1_TX, 59 PB7/I2C1_SDA/TIM17_CH1N/TIM4_CH2/USART1_RX, 60 BOOT0, 61 PB8/TIM4_CH3/TIM16_CH1/CEC/I2C1_SCL, 62 PB9/TIM4_CH4/TIM17_CH1/I2C1_SDA, 63 VSS, 64 VDD

## ST STM32F101 48PIN
designator IC?
pins: 1 VBAT, 2 PC13/TAMPER-RTC, 3 PC14/OSC32_IN "PC14-OSC32_IN/PC14/OSC32_IN", 4 PC15/OSC32_OUT "PC15-OSC32_OUT/PC15/OSC32_OUT", 5 PD0/OSC_IN, 6 PD1/OSC_OUT, 7 ~{RST} "NRST", 8 VSSA, 9 VDDA, 10 PA0/WKUP/USART2_CTS/ADC_IN0, 11 PA1/USART2_RTS/ADC_IN1/TIM2_CH2, 12 PA2/USART2_TX/ADC_IN2/TIM2_CH3, 13 PA3/USART2_RX/ADC_IN3/TIM2_CH4, 14 PA4/SPI_NSS/ADC_IN4/USART2_CK, 15 PA5/SPI_SCK/ADC_IN5, 16 PA6/SPI_MISO/ADC_IN6/TIM3_CH1, 17 PA7/SPI_MOSI/ADC_IN7/TIM3_CH2, 18 PB0/ADC_IN8/TIM3_CH3, 19 PB1/ADC_IN9/TIM3_CH4, 20 PB2/BOOT1, 21 PB10/TIM2_CH3, 22 PB11/TIM2_CH4, 23 VSS, 24 VDD, 25 PB12, 26 PB13, 27 PB14, 28 PB15, 29 PA8/USART1_CK/MCO, 30 PA9/USART1_TX, 31 PA10/USART1_RX, 32 PA11/USART1_CTS, 33 PA12/USART1_RTS, 34 PA13/JTMS-SWDIO, 35 VSS, 36 VDD, 37 PA14/JTCK/SWCLK, 38 PA15/JTDI/TIM2_CH1_ETR/SPI_NSS, 39 PB3/JTDO/TIM2_CH2/TRACESWO/SPI_SCK, 40 PB4/NJTRST/TIM3_CH1/SPI_MISO, 41 PB5/I2C_SMBA/TIM3_CH2/SPI_MOSI, 42 PB6/I2C_SCL/USART1_TX, 43 PB7/I2C_SDA/USART1_RX, 44 BOOT0, 45 PB8/I2C_SCL, 46 PB9/I2C_SDA, 47 VSS, 48 VDD

## ST STM32F101 64PIN
designator IC?
pins: 1 VBAT, 2 PC13/TAMPER-RTC, 3 PC14/OSC32_IN "PC14-OSC32_IN/PC14/OSC32_IN", 4 PC15/OSC32_OUT "PC15-OSC32_OUT/PC15/OSC32_OUT", 5 PD0/OSC_IN, 6 PD1/OSC_OUT, 7 ~{RST} "NRST", 8 PC0/ADC_IN10, 9 PC1/ADC_IN11, 10 PC2/ADC_IN12, 11 PC3/ADC_IN13, 12 VSSA, 13 VDDA, 14 PA0/WKUP/USART2_CTS/ADC_IN0/TIM5_CH1/TIM2_CH1_ETR, 15 PA1/USART2_RTS/ADC_IN1/TIM5_CH2/TIM2_CH2, 16 PA2/USART2_TX/TIM5_CH3/ADC_IN2/TIM2_CH3/TIM9_CH1, 17 PA3/USART2_RX/TIM5_CH4/ADC_IN3/TIM2_CH4/TIM9_CH2, 18 VSS, 19 VDD, 20 PA4/SPI1_NSS/DAC_OUT1/ADC_IN4/USART2_CK, 21 PA5/SPI1_SCK/DAC_OUT2/ADC_IN5, 22 PA6/SPI1_MISO/ADC_IN6/TIM3_CH1/TIM13_CH1, 23 PA7/SPI1_MOSI/ADC_IN7/TIM3_CH2/TIM14_CH1, 24 PC4/ADC_IN14, 25 PC5/ADC_IN15, 26 PB0/ADC_IN8/TIM3_CH3, 27 PB1/ADC_IN9/TIM3_CH4, 28 PB2/BOOT1, 29 PB10/I2C2_SCL/USART3_TX/TIM2_CH3, 30 PB11/I2C2_SDA/USART3_RX/TIM2_CH4, 31 VSS, 32 VDD, 33 PB12/SPI2_NSS/I2C2_SMBA/USART3_CK, 34 PB13/SPI2_SCK/USART3_CTS, 35 PB14/SPI2_MISO/USART3_RTS/TIM12_CH1, 36 PB15/SPI2_MOSI/TIM12_CH2, 37 PC6/TIM3_CH1, 38 PC7/TIM3_CH2, 39 PC8/TIM3_CH3, 40 PC9/TIM3_CH4, 41 PA8/USART1_CK/MCO, 42 PA9/USART1_TX, 43 PA10/USART1_RX, 44 PA11/USART1_CTS, 45 PA12/USART1_RTS, 46 PA13/JTMS-SWDIO, 47 VSS, 48 VDD, 49 PA14/JTCK-SWCLK, 50 PA15/JTDI/SPI3_NSS/TIM2_CH1_ETR/SPI1_NSS, 51 PC10/UART4_TX/USART3_TX, 52 PC11/UART4_RX/USART3_RX, 53 PC12/UART5_TX/USART3_CK, 54 PD2/TIM3_ETR/UART5_RX, 55 PB3/JTDO/SPI3_SCK/TIM2_CH2/TRACESWO/SPI1_SCK, 56 PB4/NJTRST/SPI3_MISO/TIM3_CH1/SPI1_MISO, 57 PB5/I2C1_SMBA/SPI3_MOSI/TIM3_CH2/SPI1_MOSI, 58 PB6/I2C1_SCL/TIM4_CH1/USART1_TX, 59 PB7/I2C1_SDA/TIM4_CH2/USART1_RX, 60 BOOT0, 61 PB8/TIM4_CH3/I2C1_SCL, 62 PB9/TIM4_CH4/I2C1_SDA, 63 VSS, 64 VDD

## ST STM32F103 48PIN
designator IC?
pins: 1 VBAT, 2 PC13/TAMPER-RTC, 3 PC14/OSC32_IN, 4 PC15/OSC32_OUT, 5 PD0/OSC_IN, 6 PD1/OSC_OUT, 7 ~{RST} "NRST", 8 VSSA, 9 VDDA, 10 PA0/WKUP/USART2_CTS/ADC12_IN0, 11 PA1/USART2_RTS/ADC12_IN1/TIM2_CH2, 12 PA2/USART2_TX/ADC12_IN2/TIM2_CH3, 13 PA3/USART2_RX/ADC12_IN3/TIM2_CH4, 14 PA4/SPI1_NSS/USART2_CK/ADC12_IN4, 15 PA5/SPI1_SCK/ADC12_IN5, 16 PA6/SPI1_MISO/ADC12_IN6/TIM3_CH1/TIM1_BKIN, 17 PA7/SPI1_MOSI/ADC12_IN7/TIM3_CH2/TIM1_CH1N, 18 PB0/ADC12_IN8/TIM3_CH3/TIM1_CH2N, 19 PB1/ADC12_IN9/TIM3_CH4/TIM1_CH3N, 20 PB2/BOOT1, 21 PB10/TIM2_CH3, 22 PB11/TIM2_CH4, 23 VSS, 24 VDD, 25 PB12/TIM1_BKIN, 26 PB13/TIM1_CH1N, 27 PB14/TIM1_CH2N, 28 PB15/TIM1_CH3N, 29 PA8/USART1_CK/TIM1_CH1/MCO, 30 PA9/USART1_TX/TIM1_CH2, 31 PA10/USART1_RX/TIM1_CH3, 32 PA11/USART1_CTS/CAN_RX/TIM1_CH4/USBDM, 33 PA12/USART1_RTS/CAN_TX/TIM1_ETR/USBDP, 34 PA13/JTMS/SWDIO, 35 VSS, 36 VDD, 37 PA14/JTCK/SWCLK, 38 PA15/JTDI/TIM2_CH1_ETR/SPI1_NSS, 39 PB3/JTDO/TIM2_CH2/TRACESWO/SPI1_SCK, 40 PB4/NJTRST/TIM3_CH1/SPI1_MISO, 41 PB5/I2C1_SMBA/TIM3_CH2/SPI1_MOSI, 42 PB6/I2C1_SCL/USART1_TX, 43 PB7/I2C1_SDA/USART1_RX, 44 BOOT0, 45 PB8/I2C1_SCL/CAN_RX, 46 PB9/I2C1_SDA/CAN_TX, 47 VSS, 48 VDD

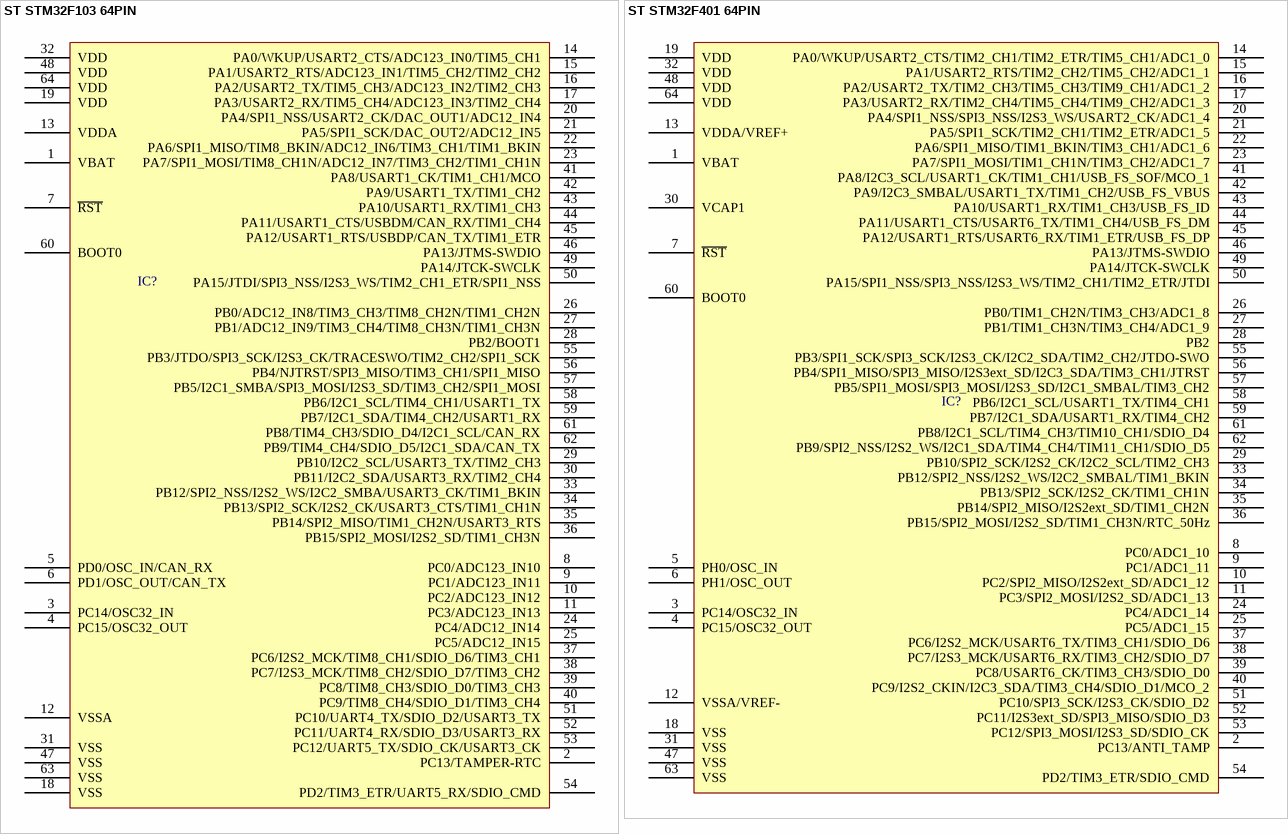
[diagram p11: symbols ST STM32F103 64PIN to ST STM32F401 64PIN]

## ST STM32F103 64PIN
designator IC?
pins: 1 VBAT, 2 PC13/TAMPER-RTC, 3 PC14/OSC32_IN, 4 PC15/OSC32_OUT, 5 PD0/OSC_IN/CAN_RX, 6 PD1/OSC_OUT/CAN_TX, 7 ~{RST} "NRST", 8 PC0/ADC123_IN10, 9 PC1/ADC123_IN11, 10 PC2/ADC123_IN12, 11 PC3/ADC123_IN13, 12 VSSA, 13 VDDA, 14 PA0/WKUP/USART2_CTS/ADC123_IN0/TIM5_CH1, 15 PA1/USART2_RTS/ADC123_IN1/TIM5_CH2/TIM2_CH2, 16 PA2/USART2_TX/TIM5_CH3/ADC123_IN2/TIM2_CH3, 17 PA3/USART2_RX/TIM5_CH4/ADC123_IN3/TIM2_CH4, 18 VSS, 19 VDD, 20 PA4/SPI1_NSS/USART2_CK/DAC_OUT1/ADC12_IN4, 21 PA5/SPI1_SCK/DAC_OUT2/ADC12_IN5, 22 PA6/SPI1_MISO/TIM8_BKIN/ADC12_IN6/TIM3_CH1/TIM1_BKIN, 23 PA7/SPI1_MOSI/TIM8_CH1N/ADC12_IN7/TIM3_CH2/TIM1_CH1N, 24 PC4/ADC12_IN14, 25 PC5/ADC12_IN15, 26 PB0/ADC12_IN8/TIM3_CH3/TIM8_CH2N/TIM1_CH2N, 27 PB1/ADC12_IN9/TIM3_CH4/TIM8_CH3N/TIM1_CH3N, 28 PB2/BOOT1, 29 PB10/I2C2_SCL/USART3_TX/TIM2_CH3, 30 PB11/I2C2_SDA/USART3_RX/TIM2_CH4, 31 VSS, 32 VDD, 33 PB12/SPI2_NSS/I2S2_WS/I2C2_SMBA/USART3_CK/TIM1_BKIN, 34 PB13/SPI2_SCK/I2S2_CK/USART3_CTS/TIM1_CH1N, 35 PB14/SPI2_MISO/TIM1_CH2N/USART3_RTS, 36 PB15/SPI2_MOSI/I2S2_SD/TIM1_CH3N, 37 PC6/I2S2_MCK/TIM8_CH1/SDIO_D6/TIM3_CH1, 38 PC7/I2S3_MCK/TIM8_CH2/SDIO_D7/TIM3_CH2, 39 PC8/TIM8_CH3/SDIO_D0/TIM3_CH3, 40 PC9/TIM8_CH4/SDIO_D1/TIM3_CH4, 41 PA8/USART1_CK/TIM1_CH1/MCO, 42 PA9/USART1_TX/TIM1_CH2, 43 PA10/USART1_RX/TIM1_CH3, 44 PA11/USART1_CTS/USBDM/CAN_RX/TIM1_CH4, 45 PA12/USART1_RTS/USBDP/CAN_TX/TIM1_ETR, 46 PA13/JTMS-SWDIO, 47 VSS, 48 VDD, 49 PA14/JTCK-SWCLK, 50 PA15/JTDI/SPI3_NSS/I2S3_WS/TIM2_CH1_ETR/SPI1_NSS, 51 PC10/UART4_TX/SDIO_D2/USART3_TX, 52 PC11/UART4_RX/SDIO_D3/USART3_RX, 53 PC12/UART5_TX/SDIO_CK/USART3_CK, 54 PD2/TIM3_ETR/UART5_RX/SDIO_CMD, 55 PB3/JTDO/SPI3_SCK/I2S3_CK/TRACESWO/TIM2_CH2/SPI1_SCK, 56 PB4/NJTRST/SPI3_MISO/TIM3_CH1/SPI1_MISO, 57 PB5/I2C1_SMBA/SPI3_MOSI/I2S3_SD/TIM3_CH2/SPI1_MOSI, 58 PB6/I2C1_SCL/TIM4_CH1/USART1_TX, 59 PB7/I2C1_SDA/TIM4_CH2/USART1_RX, 60 BOOT0, 61 PB8/TIM4_CH3/SDIO_D4/I2C1_SCL/CAN_RX, 62 PB9/TIM4_CH4/SDIO_D5/I2C1_SDA/CAN_TX, 63 VSS, 64 VDD